# Altium integrated library Xilinx Spartan-II.IntLib: 120 symbols (part 12 of 14)
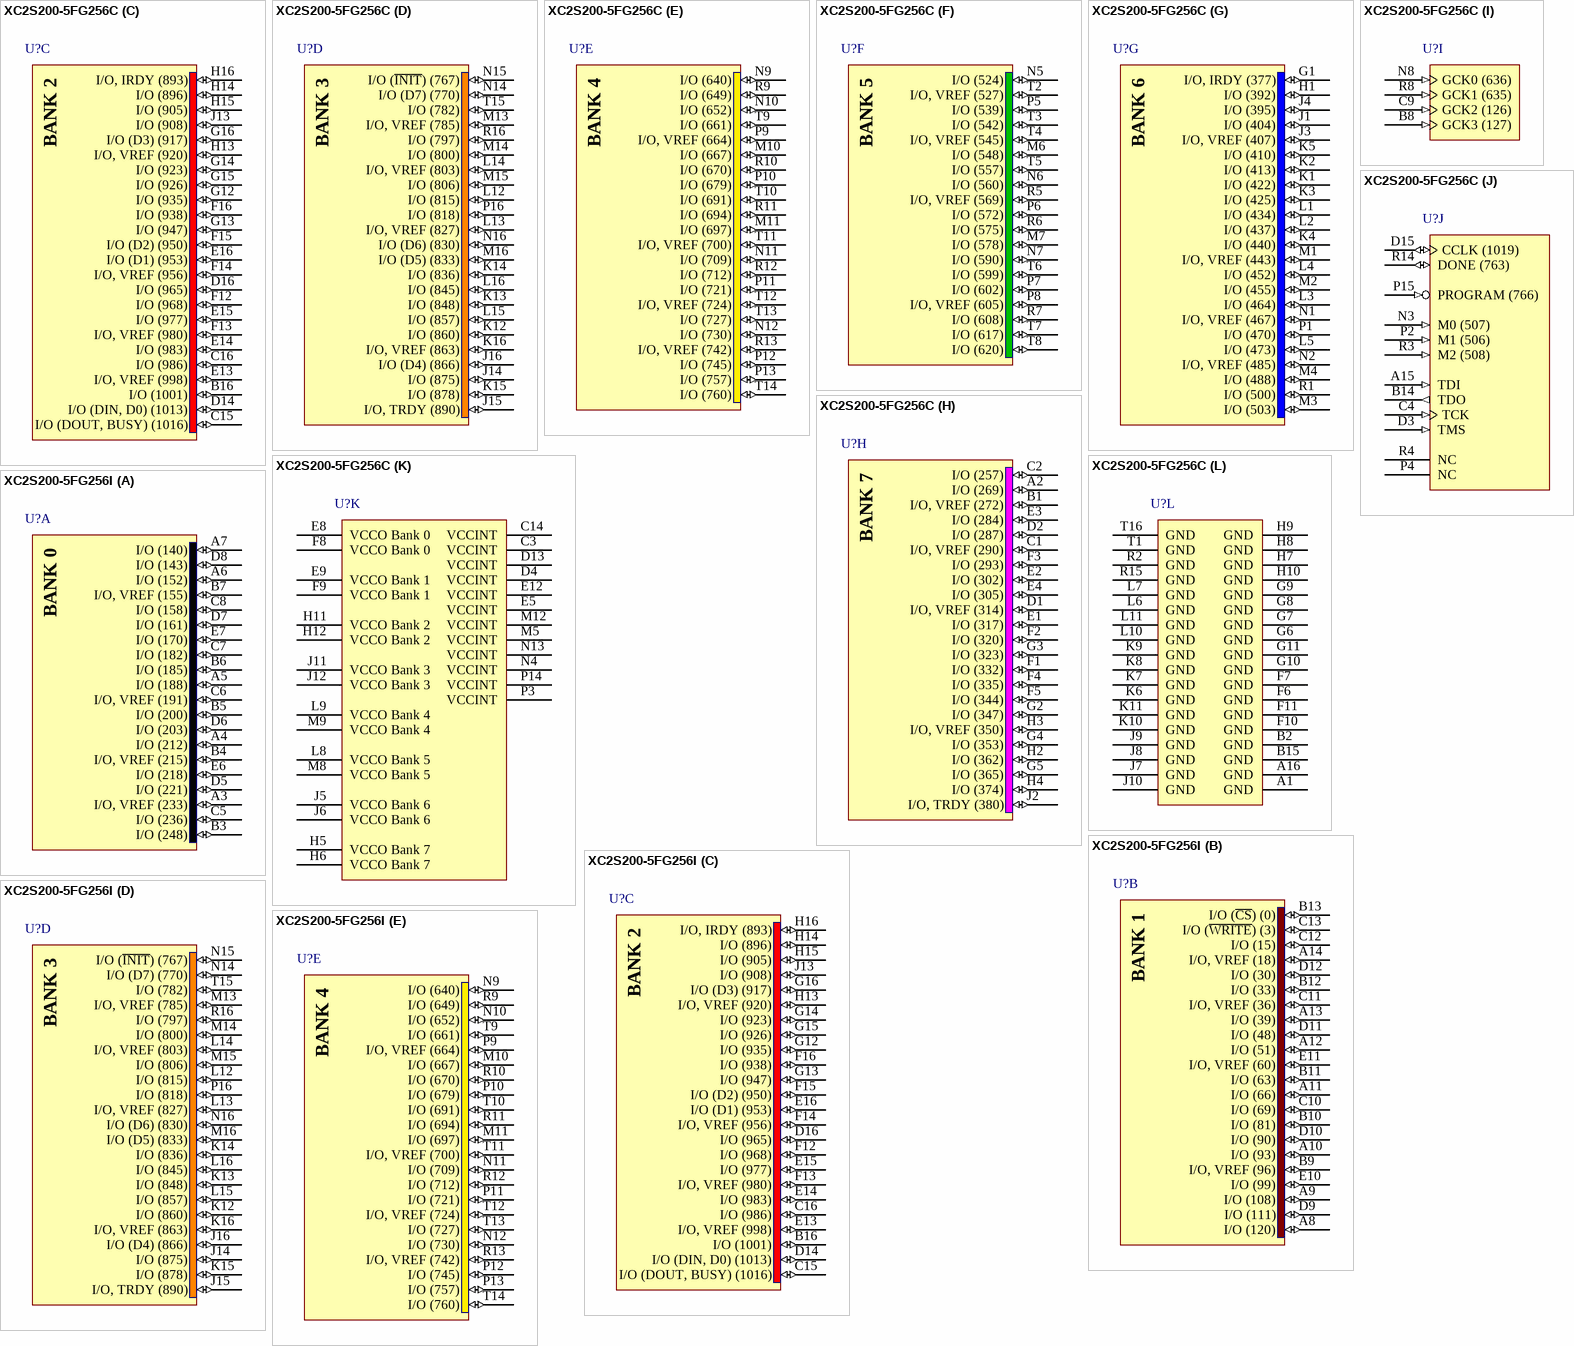
[diagram p81: symbols XC2S200-5FG256C to XC2S200-5FG256I]

## XC2S200-5FG256C
designator U?
Spartan-II 2.5V FPGA, 256-Ball FBGA, Standard Performance, Commercial Grade; Published: 13-Jul-2001; LatestRevisionDate: 13-Apr-2006; LatestRevisionNote: IPC-7351 Footprint Added.; DatasheetVersion: Aug-2004; PackageVersion: ver1.2.1, Apr-2005; PackageReference: FG256; Publisher: Altium Limited; PackageDescription: 256-Ball Fine Pitch Ball Grid Array (FG256); Code_JEDEC: MO-151-AAF-1; Code_IPC: BGA100P16X16-256; ComponentLink1Description: Manufacturer Link; ComponentLink1URL: http://www.xilinx.com/products/silicon_solutions/fpgas/spartan_series/spartan2_fpgas/index.htm; ComponentLink2Description: Datasheet; ComponentLink2URL: http://direct.xilinx.com/bvdocs/publications/ds001.pdf
footprint FG256 (BGA, 256-Leads, Body 17x17mm, Pitch 1mm)
3D model XC2S200-FG256 (256-Ball Fine Pitch Ball Grid Array (FG256))
signal-integrity model XC2S200_FG256 (Spartan-II)
part A pins: A3 I/O, VREF (233) (io), A4 I/O (212) (io), A5 I/O (188) (io), A6 I/O (152) (io), A7 I/O (140) (io), B3 I/O (248) (io), B4 I/O, VREF (215) (io), B5 I/O (200) (io), B6 I/O (185) (io), B7 I/O, VREF (155) (io), C5 I/O (236) (io), C6 I/O, VREF (191) (io), C7 I/O (182) (io), C8 I/O (158) (io), D5 I/O (221) (io), D6 I/O (203) (io), D7 I/O (161) (io), D8 I/O (143) (io), E6 I/O (218) (io), E7 I/O (170) (io)
part B pins: A8 I/O (120) (io), A9 I/O (108) (io), A10 I/O (93) (io), A11 I/O (66) (io), A12 I/O (51) (io), A13 I/O (39) (io), A14 I/O, VREF (18) (io), B9 I/O, VREF (96) (io), B10 I/O (81) (io), B11 I/O (63) (io), B12 I/O (33) (io), B13 I/O (~{CS}) (0) (io), C10 I/O (69) (io), C11 I/O, VREF (36) (io), C12 I/O (15) (io), C13 I/O (~{WRITE}) (3) (io), D9 I/O (111) (io), D10 I/O (90) (io), D11 I/O (48) (io), D12 I/O (30) (io), E10 I/O (99) (io), E11 I/O, VREF (60) (io)
part C pins: B16 I/O (1001) (io), C15 I/O (DOUT, BUSY) (1016) (io), C16 I/O (986) (io), D14 I/O (DIN, D0) (1013) (io), D16 I/O (965) (io), E13 I/O, VREF (998) (io), E14 I/O (983) (io), E15 I/O (977) (io), E16 I/O (D1) (953) (io), F12 I/O (968) (io), F13 I/O, VREF (980) (io), F14 I/O, VREF (956) (io), F15 I/O (D2) (950) (io), F16 I/O (938) (io), G12 I/O (935) (io), G13 I/O (947) (io), G14 I/O (923) (io), G15 I/O (926) (io), G16 I/O (D3) (917) (io), H13 I/O, VREF (920) (io), H14 I/O (896) (io), H15 I/O (905) (io), H16 I/O, IRDY (893) (io), J13 I/O (908) (io)
part D pins: J14 I/O (875) (io), J15 I/O, TRDY (890) (io), J16 I/O (D4) (866) (io), K12 I/O (860) (io), K13 I/O (848) (io), K14 I/O (836) (io), K15 I/O (878) (io), K16 I/O, VREF (863) (io), L12 I/O (815) (io), L13 I/O, VREF (827) (io), L14 I/O, VREF (803) (io), L15 I/O (857) (io), L16 I/O (845) (io), M13 I/O, VREF (785) (io), M14 I/O (800) (io), M15 I/O (806) (io), M16 I/O (D5) (833) (io), N14 I/O (D7) (770) (io), N15 I/O (~{INIT}) (767) (io), N16 I/O (D6) (830) (io), P16 I/O (818) (io), R16 I/O (797) (io), T15 I/O (782) (io)
part E pins: M10 I/O (667) (io), M11 I/O (697) (io), N9 I/O (640) (io), N10 I/O (652) (io), N11 I/O (709) (io), N12 I/O (730) (io), P9 I/O, VREF (664) (io), P10 I/O (679) (io), P11 I/O (721) (io), P12 I/O (745) (io), P13 I/O (757) (io), R9 I/O (649) (io), R10 I/O (670) (io), R11 I/O (694) (io), R12 I/O (712) (io), R13 I/O, VREF (742) (io), T9 I/O (661) (io), T10 I/O (691) (io), T11 I/O, VREF (700) (io), T12 I/O, VREF (724) (io), T13 I/O (727) (io), T14 I/O (760) (io)
part F pins: M6 I/O (548) (io), M7 I/O (578) (io), N5 I/O (524) (io), N6 I/O (560) (io), N7 I/O (590) (io), P5 I/O (539) (io), P6 I/O (572) (io), P7 I/O (602) (io), P8 I/O, VREF (605) (io), R5 I/O, VREF (569) (io), R6 I/O (575) (io), R7 I/O (608) (io), T2 I/O, VREF (527) (io), T3 I/O (542) (io), T4 I/O, VREF (545) (io), T5 I/O (557) (io), T6 I/O (599) (io), T7 I/O (617) (io), T8 I/O (620) (io)
part G pins: G1 I/O, IRDY (377) (io), H1 I/O (392) (io), J1 I/O (404) (io), J3 I/O, VREF (407) (io), J4 I/O (395) (io), K1 I/O (422) (io), K2 I/O (413) (io), K3 I/O (425) (io), K4 I/O (440) (io), K5 I/O (410) (io), L1 I/O (434) (io), L2 I/O (437) (io), L3 I/O (464) (io), L4 I/O (452) (io), L5 I/O (473) (io), M1 I/O, VREF (443) (io), M2 I/O (455) (io), M3 I/O (503) (io), M4 I/O (488) (io), N1 I/O, VREF (467) (io), N2 I/O, VREF (485) (io), P1 I/O (470) (io), R1 I/O (500) (io)
part H pins: A2 I/O (269) (io), B1 I/O, VREF (272) (io), C1 I/O, VREF (290) (io), C2 I/O (257) (io), D1 I/O, VREF (314) (io), D2 I/O (287) (io), E1 I/O (317) (io), E2 I/O (302) (io), E3 I/O (284) (io), E4 I/O (305) (io), F1 I/O (332) (io), F2 I/O (320) (io), F3 I/O (293) (io), F4 I/O (335) (io), F5 I/O (344) (io), G2 I/O (347) (io), G3 I/O (323) (io), G4 I/O (353) (io), G5 I/O (365) (io), H2 I/O (362) (io), H3 I/O, VREF (350) (io), H4 I/O (374) (io), J2 I/O, TRDY (380) (io)
part I pins: B8 GCK3 (127) (in), C9 GCK2 (126) (in), N8 GCK0 (636) (in), R8 GCK1 (635) (in)
part J pins: A15 TDI (in), B14 TDO (out), C4 TCK (in), D3 TMS (in), D15 CCLK (1019) (io), N3 M0 (507) (in), P2 M1 (506) (in), P4 NC, P15 PROGRAM (766) (in), R3 M2 (508) (in), R4 NC, R14 DONE (763) (io)
part K pins: C3 VCCINT (power), C14 VCCINT (power), D4 VCCINT (power), D13 VCCINT (power), E5 VCCINT (power), E8 VCCO Bank 0 (power), E9 VCCO Bank 1 (power), E12 VCCINT (power), F8 VCCO Bank 0 (power), F9 VCCO Bank 1 (power), H5 VCCO Bank 7 (power), H6 VCCO Bank 7 (power), H11 VCCO Bank 2 (power), H12 VCCO Bank 2 (power), J5 VCCO Bank 6 (power), J6 VCCO Bank 6 (power), J11 VCCO Bank 3 (power), J12 VCCO Bank 3 (power), L8 VCCO Bank 5 (power), L9 VCCO Bank 4 (power), M5 VCCINT (power), M8 VCCO Bank 5 (power), M9 VCCO Bank 4 (power), M12 VCCINT (power), N4 VCCINT (power), N13 VCCINT (power), P3 VCCINT (power), P14 VCCINT (power)
part L pins: A1 GND (power), A16 GND (power), B2 GND (power), B15 GND (power), F6 GND (power), F7 GND (power), F10 GND (power), F11 GND (power), G6 GND (power), G7 GND (power), G8 GND (power), G9 GND (power), G10 GND (power), G11 GND (power), H7 GND (power), H8 GND (power), H9 GND (power), H10 GND (power), J7 GND (power), J8 GND (power), J9 GND (power), J10 GND (power), K6 GND (power), K7 GND (power), K8 GND (power), K9 GND (power), K10 GND (power), K11 GND (power), L6 GND (power), L7 GND (power), L10 GND (power), L11 GND (power), R2 GND (power), R15 GND (power), T1 GND (power), T16 GND (power)
part A text: BANK 0
part B text: BANK 1
part C text: BANK 2
part D text: BANK 3
part E text: BANK 4
part F text: BANK 5
part G text: BANK 6
part H text: BANK 7

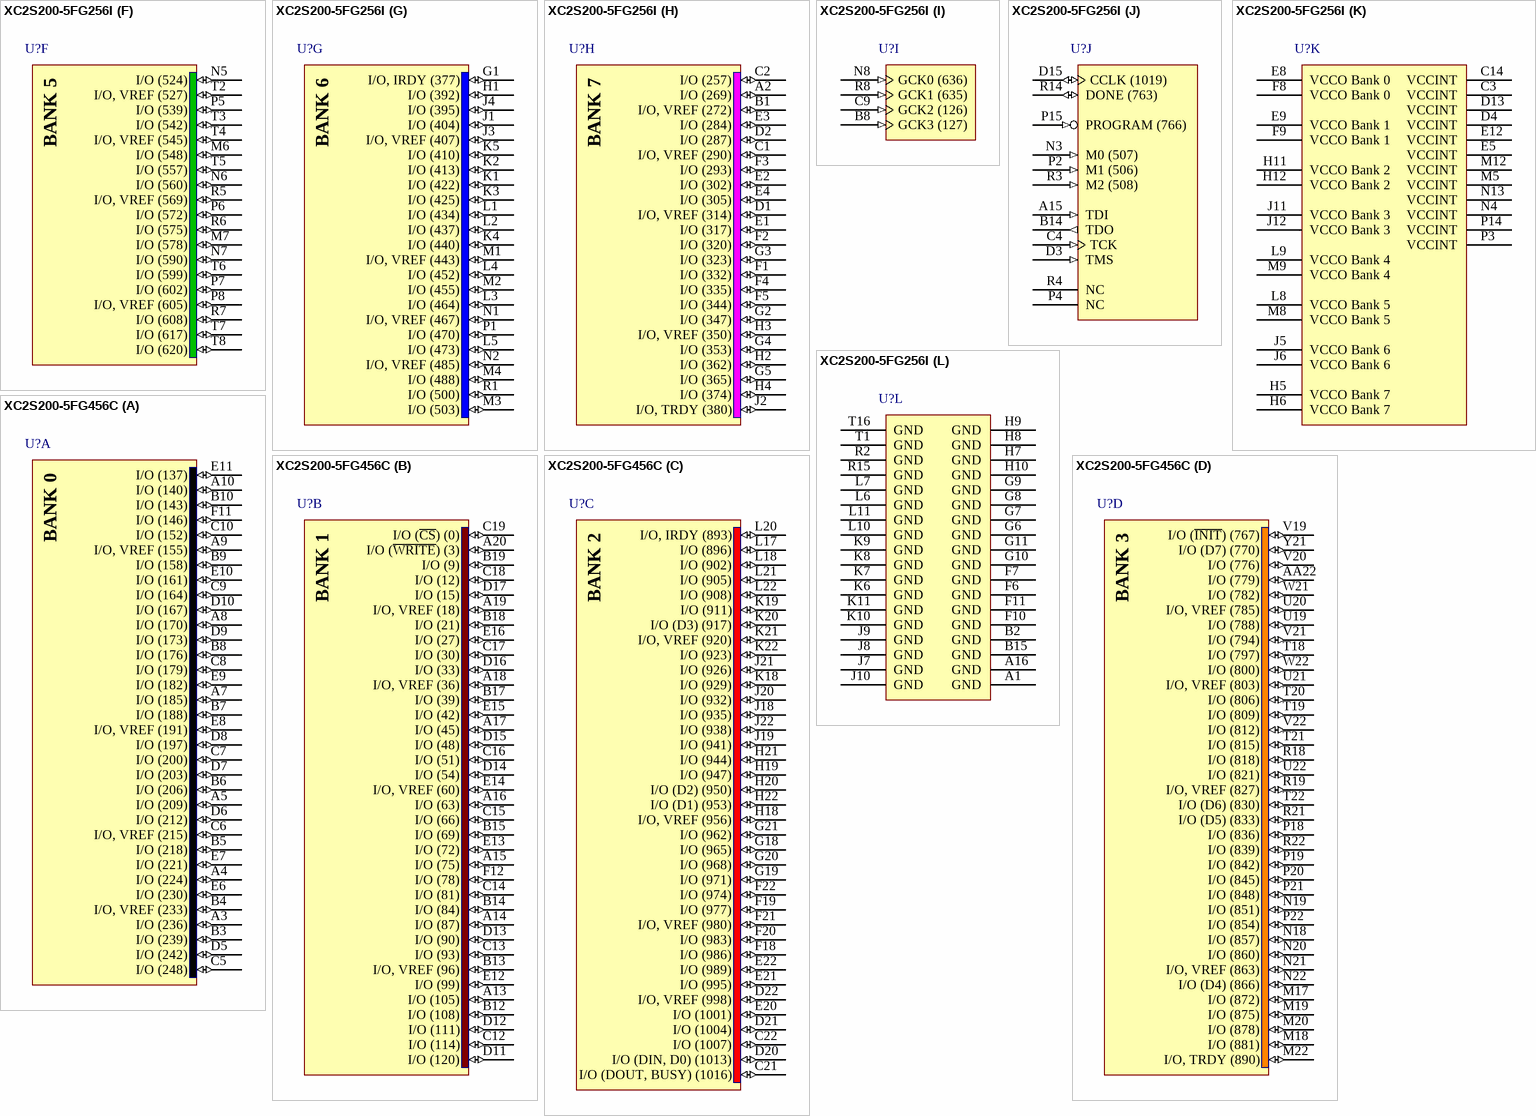
[diagram p58: symbols XC2S200-5FG256I to XC2S200-5FG456C]

## XC2S200-5FG256I
designator U?
Spartan-II 2.5V FPGA, 256-Ball FBGA, Standard Performance, Industrial Grade; Published: 13-Jul-2001; LatestRevisionDate: 13-Apr-2006; LatestRevisionNote: IPC-7351 Footprint Added.; DatasheetVersion: Aug-2004; PackageVersion: ver1.2.1, Apr-2005; PackageReference: FG256; Publisher: Altium Limited; PackageDescription: 256-Ball Fine Pitch Ball Grid Array (FG256); Code_JEDEC: MO-151-AAF-1; Code_IPC: BGA100P16X16-256; ComponentLink1Description: Manufacturer Link; ComponentLink1URL: http://www.xilinx.com/products/silicon_solutions/fpgas/spartan_series/spartan2_fpgas/index.htm; ComponentLink2Description: Datasheet; ComponentLink2URL: http://direct.xilinx.com/bvdocs/publications/ds001.pdf
footprint FG256 (BGA, 256-Leads, Body 17x17mm, Pitch 1mm)
3D model XC2S200-FG256 (256-Ball Fine Pitch Ball Grid Array (FG256))
signal-integrity model XC2S200_FG256 (Spartan-II)
part A pins: A3 I/O, VREF (233) (io), A4 I/O (212) (io), A5 I/O (188) (io), A6 I/O (152) (io), A7 I/O (140) (io), B3 I/O (248) (io), B4 I/O, VREF (215) (io), B5 I/O (200) (io), B6 I/O (185) (io), B7 I/O, VREF (155) (io), C5 I/O (236) (io), C6 I/O, VREF (191) (io), C7 I/O (182) (io), C8 I/O (158) (io), D5 I/O (221) (io), D6 I/O (203) (io), D7 I/O (161) (io), D8 I/O (143) (io), E6 I/O (218) (io), E7 I/O (170) (io)
part B pins: A8 I/O (120) (io), A9 I/O (108) (io), A10 I/O (93) (io), A11 I/O (66) (io), A12 I/O (51) (io), A13 I/O (39) (io), A14 I/O, VREF (18) (io), B9 I/O, VREF (96) (io), B10 I/O (81) (io), B11 I/O (63) (io), B12 I/O (33) (io), B13 I/O (~{CS}) (0) (io), C10 I/O (69) (io), C11 I/O, VREF (36) (io), C12 I/O (15) (io), C13 I/O (~{WRITE}) (3) (io), D9 I/O (111) (io), D10 I/O (90) (io), D11 I/O (48) (io), D12 I/O (30) (io), E10 I/O (99) (io), E11 I/O, VREF (60) (io)
part C pins: B16 I/O (1001) (io), C15 I/O (DOUT, BUSY) (1016) (io), C16 I/O (986) (io), D14 I/O (DIN, D0) (1013) (io), D16 I/O (965) (io), E13 I/O, VREF (998) (io), E14 I/O (983) (io), E15 I/O (977) (io), E16 I/O (D1) (953) (io), F12 I/O (968) (io), F13 I/O, VREF (980) (io), F14 I/O, VREF (956) (io), F15 I/O (D2) (950) (io), F16 I/O (938) (io), G12 I/O (935) (io), G13 I/O (947) (io), G14 I/O (923) (io), G15 I/O (926) (io), G16 I/O (D3) (917) (io), H13 I/O, VREF (920) (io), H14 I/O (896) (io), H15 I/O (905) (io), H16 I/O, IRDY (893) (io), J13 I/O (908) (io)
part D pins: J14 I/O (875) (io), J15 I/O, TRDY (890) (io), J16 I/O (D4) (866) (io), K12 I/O (860) (io), K13 I/O (848) (io), K14 I/O (836) (io), K15 I/O (878) (io), K16 I/O, VREF (863) (io), L12 I/O (815) (io), L13 I/O, VREF (827) (io), L14 I/O, VREF (803) (io), L15 I/O (857) (io), L16 I/O (845) (io), M13 I/O, VREF (785) (io), M14 I/O (800) (io), M15 I/O (806) (io), M16 I/O (D5) (833) (io), N14 I/O (D7) (770) (io), N15 I/O (~{INIT}) (767) (io), N16 I/O (D6) (830) (io), P16 I/O (818) (io), R16 I/O (797) (io), T15 I/O (782) (io)
part E pins: M10 I/O (667) (io), M11 I/O (697) (io), N9 I/O (640) (io), N10 I/O (652) (io), N11 I/O (709) (io), N12 I/O (730) (io), P9 I/O, VREF (664) (io), P10 I/O (679) (io), P11 I/O (721) (io), P12 I/O (745) (io), P13 I/O (757) (io), R9 I/O (649) (io), R10 I/O (670) (io), R11 I/O (694) (io), R12 I/O (712) (io), R13 I/O, VREF (742) (io), T9 I/O (661) (io), T10 I/O (691) (io), T11 I/O, VREF (700) (io), T12 I/O, VREF (724) (io), T13 I/O (727) (io), T14 I/O (760) (io)
part F pins: M6 I/O (548) (io), M7 I/O (578) (io), N5 I/O (524) (io), N6 I/O (560) (io), N7 I/O (590) (io), P5 I/O (539) (io), P6 I/O (572) (io), P7 I/O (602) (io), P8 I/O, VREF (605) (io), R5 I/O, VREF (569) (io), R6 I/O (575) (io), R7 I/O (608) (io), T2 I/O, VREF (527) (io), T3 I/O (542) (io), T4 I/O, VREF (545) (io), T5 I/O (557) (io), T6 I/O (599) (io), T7 I/O (617) (io), T8 I/O (620) (io)
part G pins: G1 I/O, IRDY (377) (io), H1 I/O (392) (io), J1 I/O (404) (io), J3 I/O, VREF (407) (io), J4 I/O (395) (io), K1 I/O (422) (io), K2 I/O (413) (io), K3 I/O (425) (io), K4 I/O (440) (io), K5 I/O (410) (io), L1 I/O (434) (io), L2 I/O (437) (io), L3 I/O (464) (io), L4 I/O (452) (io), L5 I/O (473) (io), M1 I/O, VREF (443) (io), M2 I/O (455) (io), M3 I/O (503) (io), M4 I/O (488) (io), N1 I/O, VREF (467) (io), N2 I/O, VREF (485) (io), P1 I/O (470) (io), R1 I/O (500) (io)
part H pins: A2 I/O (269) (io), B1 I/O, VREF (272) (io), C1 I/O, VREF (290) (io), C2 I/O (257) (io), D1 I/O, VREF (314) (io), D2 I/O (287) (io), E1 I/O (317) (io), E2 I/O (302) (io), E3 I/O (284) (io), E4 I/O (305) (io), F1 I/O (332) (io), F2 I/O (320) (io), F3 I/O (293) (io), F4 I/O (335) (io), F5 I/O (344) (io), G2 I/O (347) (io), G3 I/O (323) (io), G4 I/O (353) (io), G5 I/O (365) (io), H2 I/O (362) (io), H3 I/O, VREF (350) (io), H4 I/O (374) (io), J2 I/O, TRDY (380) (io)
part I pins: B8 GCK3 (127) (in), C9 GCK2 (126) (in), N8 GCK0 (636) (in), R8 GCK1 (635) (in)
part J pins: A15 TDI (in), B14 TDO (out), C4 TCK (in), D3 TMS (in), D15 CCLK (1019) (io), N3 M0 (507) (in), P2 M1 (506) (in), P4 NC, P15 PROGRAM (766) (in), R3 M2 (508) (in), R4 NC, R14 DONE (763) (io)
part K pins: C3 VCCINT (power), C14 VCCINT (power), D4 VCCINT (power), D13 VCCINT (power), E5 VCCINT (power), E8 VCCO Bank 0 (power), E9 VCCO Bank 1 (power), E12 VCCINT (power), F8 VCCO Bank 0 (power), F9 VCCO Bank 1 (power), H5 VCCO Bank 7 (power), H6 VCCO Bank 7 (power), H11 VCCO Bank 2 (power), H12 VCCO Bank 2 (power), J5 VCCO Bank 6 (power), J6 VCCO Bank 6 (power), J11 VCCO Bank 3 (power), J12 VCCO Bank 3 (power), L8 VCCO Bank 5 (power), L9 VCCO Bank 4 (power), M5 VCCINT (power), M8 VCCO Bank 5 (power), M9 VCCO Bank 4 (power), M12 VCCINT (power), N4 VCCINT (power), N13 VCCINT (power), P3 VCCINT (power), P14 VCCINT (power)
part L pins: A1 GND (power), A16 GND (power), B2 GND (power), B15 GND (power), F6 GND (power), F7 GND (power), F10 GND (power), F11 GND (power), G6 GND (power), G7 GND (power), G8 GND (power), G9 GND (power), G10 GND (power), G11 GND (power), H7 GND (power), H8 GND (power), H9 GND (power), H10 GND (power), J7 GND (power), J8 GND (power), J9 GND (power), J10 GND (power), K6 GND (power), K7 GND (power), K8 GND (power), K9 GND (power), K10 GND (power), K11 GND (power), L6 GND (power), L7 GND (power), L10 GND (power), L11 GND (power), R2 GND (power), R15 GND (power), T1 GND (power), T16 GND (power)
part A text: BANK 0
part B text: BANK 1
part C text: BANK 2
part D text: BANK 3
part E text: BANK 4
part F text: BANK 5
part G text: BANK 6
part H text: BANK 7

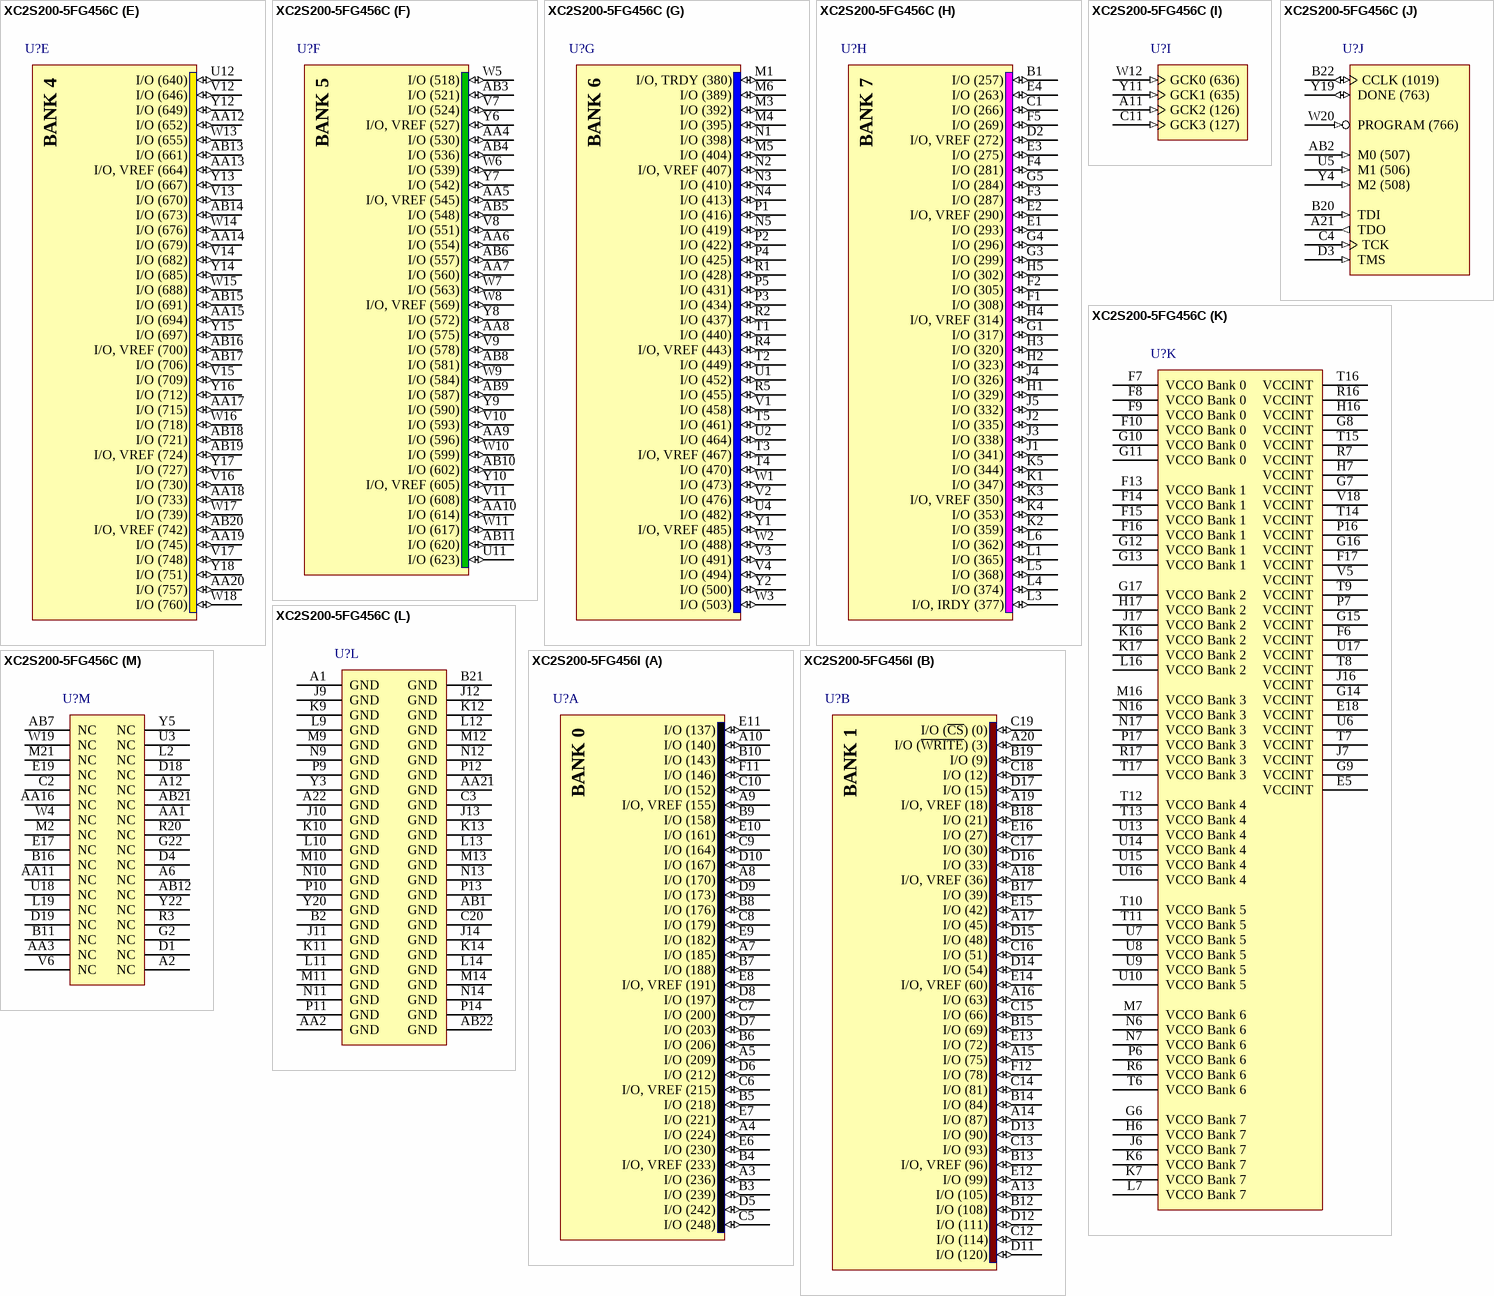
[diagram p59: symbols XC2S200-5FG456C to XC2S200-5FG456I]

## XC2S200-5FG456C
designator U?
Spartan-II 2.5V FPGA, 456-Ball FBGA, Standard Performance, Commercial Grade; Published: 13-Jul-2001; LatestRevisionDate: 13-Apr-2006; LatestRevisionNote: IPC-7351 Footprint Added.; DatasheetVersion: Aug-2004; PackageVersion: ver1.2.1, Mar-2005; PackageReference: FG456; Publisher: Altium Limited; PackageDescription: 456-Ball Fine Pitch Ball Grid Array (FG456); Code_JEDEC: MO-151-AAJ-1 (Depopulated); ComponentLink1Description: Manufacturer Link; ComponentLink1URL: http://www.xilinx.com/products/silicon_solutions/fpgas/spartan_series/spartan2_fpgas/index.htm; ComponentLink2Description: Datasheet; ComponentLink2URL: http://direct.xilinx.com/bvdocs/publications/ds001.pdf
footprint FG456 (BGA, 456-Leads, Body 23x23mm, Pitch 1mm)
3D model XC2S200-FG456 (456-Ball Fine Pitch Ball Grid Array (FG456))
signal-integrity model XC2S200_FG456 (Spartan-II)
part A pins: A3 I/O (236) (io), A4 I/O (224) (io), A5 I/O (209) (io), A7 I/O (185) (io), A8 I/O (170) (io), A9 I/O, VREF (155) (io), A10 I/O (140) (io), B3 I/O (239) (io), B4 I/O, VREF (233) (io), B5 I/O (218) (io), B6 I/O (206) (io), B7 I/O (188) (io), B8 I/O (176) (io), B9 I/O (158) (io), B10 I/O (143) (io), C5 I/O (248) (io), C6 I/O, VREF (215) (io), C7 I/O (200) (io), C8 I/O (179) (io), C9 I/O (164) (io), C10 I/O (152) (io), D5 I/O (242) (io), D6 I/O (212) (io), D7 I/O (203) (io), D8 I/O (197) (io), D9 I/O (173) (io), D10 I/O (167) (io), E6 I/O (230) (io), E7 I/O (221) (io), E8 I/O, VREF (191) (io), E9 I/O (182) (io), E10 I/O (161) (io), E11 I/O (137) (io), F11 I/O (146) (io)
part B pins: A13 I/O (105) (io), A14 I/O (87) (io), A15 I/O (75) (io), A16 I/O (63) (io), A17 I/O (45) (io), A18 I/O, VREF (36) (io), A19 I/O, VREF (18) (io), A20 I/O (~{WRITE}) (3) (io), B12 I/O (108) (io), B13 I/O, VREF (96) (io), B14 I/O (84) (io), B15 I/O (69) (io), B17 I/O (39) (io), B18 I/O (21) (io), B19 I/O (9) (io), C12 I/O (114) (io), C13 I/O (93) (io), C14 I/O (81) (io), C15 I/O (66) (io), C16 I/O (51) (io), C17 I/O (30) (io), C18 I/O (12) (io), C19 I/O (~{CS}) (0) (io), D11 I/O (120) (io), D12 I/O (111) (io), D13 I/O (90) (io), D14 I/O (54) (io), D15 I/O (48) (io), D16 I/O (33) (io), D17 I/O (15) (io), E12 I/O (99) (io), E13 I/O (72) (io), E14 I/O, VREF (60) (io), E15 I/O (42) (io), E16 I/O (27) (io), F12 I/O (78) (io)
part C pins: C21 I/O (DOUT, BUSY) (1016) (io), C22 I/O (1007) (io), D20 I/O (DIN, D0) (1013) (io), D21 I/O (1004) (io), D22 I/O, VREF (998) (io), E20 I/O (1001) (io), E21 I/O (995) (io), E22 I/O (989) (io), F18 I/O (986) (io), F19 I/O (977) (io), F20 I/O (983) (io), F21 I/O, VREF (980) (io), F22 I/O (974) (io), G18 I/O (965) (io), G19 I/O (971) (io), G20 I/O (968) (io), G21 I/O (962) (io), H18 I/O, VREF (956) (io), H19 I/O (947) (io), H20 I/O (D2) (950) (io), H21 I/O (944) (io), H22 I/O (D1) (953) (io), J18 I/O (935) (io), J19 I/O (941) (io), J20 I/O (932) (io), J21 I/O (926) (io), J22 I/O (938) (io), K18 I/O (929) (io), K19 I/O (911) (io), K20 I/O (D3) (917) (io), K21 I/O, VREF (920) (io), K22 I/O (923) (io), L17 I/O (896) (io), L18 I/O (902) (io), L20 I/O, IRDY (893) (io), L21 I/O (905) (io), L22 I/O (908) (io)
part D pins: AA22 I/O (779) (io), M17 I/O (872) (io), M18 I/O (881) (io), M19 I/O (875) (io), M20 I/O (878) (io), M22 I/O, TRDY (890) (io), N18 I/O (857) (io), N19 I/O (851) (io), N20 I/O (860) (io), N21 I/O, VREF (863) (io), N22 I/O (D4) (866) (io), P18 I/O (836) (io), P19 I/O (842) (io), P20 I/O (845) (io), P21 I/O (848) (io), P22 I/O (854) (io), R18 I/O (818) (io), R19 I/O, VREF (827) (io), R21 I/O (D5) (833) (io), R22 I/O (839) (io), T18 I/O (797) (io), T19 I/O (809) (io), T20 I/O (806) (io), T21 I/O (815) (io), T22 I/O (D6) (830) (io), U19 I/O (788) (io), U20 I/O, VREF (785) (io), U21 I/O, VREF (803) (io), U22 I/O (821) (io), V19 I/O (~{INIT}) (767) (io), V20 I/O (776) (io), V21 I/O (794) (io), V22 I/O (812) (io), W21 I/O (782) (io), W22 I/O (800) (io), Y21 I/O (D7) (770) (io)
part E pins: AA12 I/O (652) (io), AA13 I/O, VREF (664) (io), AA14 I/O (679) (io), AA15 I/O (694) (io), AA17 I/O (715) (io), AA18 I/O (733) (io), AA19 I/O (745) (io), AA20 I/O (757) (io), AB13 I/O (661) (io), AB14 I/O (673) (io), AB15 I/O (691) (io), AB16 I/O, VREF (700) (io), AB17 I/O (706) (io), AB18 I/O (721) (io), AB19 I/O, VREF (724) (io), AB20 I/O, VREF (742) (io), U12 I/O (640) (io), V12 I/O (646) (io), V13 I/O (670) (io), V14 I/O (682) (io), V15 I/O (709) (io), V16 I/O (730) (io), V17 I/O (748) (io), W13 I/O (655) (io), W14 I/O (676) (io), W15 I/O (688) (io), W16 I/O (718) (io), W17 I/O (739) (io), W18 I/O (760) (io), Y12 I/O (649) (io), Y13 I/O (667) (io), Y14 I/O (685) (io), Y15 I/O (697) (io), Y16 I/O (712) (io), Y17 I/O (727) (io), Y18 I/O (751) (io)
part F pins: AA4 I/O (530) (io), AA5 I/O, VREF (545) (io), AA6 I/O (554) (io), AA7 I/O (560) (io), AA8 I/O (575) (io), AA9 I/O (596) (io), AA10 I/O (614) (io), AB3 I/O (521) (io), AB4 I/O (536) (io), AB5 I/O (548) (io), AB6 I/O (557) (io), AB8 I/O (581) (io), AB9 I/O (587) (io), AB10 I/O (602) (io), AB11 I/O (620) (io), U11 I/O (623) (io), V7 I/O (524) (io), V8 I/O (551) (io), V9 I/O (578) (io), V10 I/O (593) (io), V11 I/O (608) (io), W5 I/O (518) (io), W6 I/O (539) (io), W7 I/O (563) (io), W8 I/O, VREF (569) (io), W9 I/O (584) (io), W10 I/O (599) (io), W11 I/O (617) (io), Y6 I/O, VREF (527) (io), Y7 I/O (542) (io), Y8 I/O (572) (io), Y9 I/O (590) (io), Y10 I/O, VREF (605) (io)
part G pins: M1 I/O, TRDY (380) (io), M3 I/O (392) (io), M4 I/O (395) (io), M5 I/O (404) (io), M6 I/O (389) (io), N1 I/O (398) (io), N2 I/O, VREF (407) (io), N3 I/O (410) (io), N4 I/O (413) (io), N5 I/O (419) (io), P1 I/O (416) (io), P2 I/O (422) (io), P3 I/O (434) (io), P4 I/O (425) (io), P5 I/O (431) (io), R1 I/O (428) (io), R2 I/O (437) (io), R4 I/O, VREF (443) (io), R5 I/O (455) (io), T1 I/O (440) (io), T2 I/O (449) (io), T3 I/O, VREF (467) (io), T4 I/O (470) (io), T5 I/O (461) (io), U1 I/O (452) (io), U2 I/O (464) (io), U4 I/O (482) (io), V1 I/O (458) (io), V2 I/O (476) (io), V3 I/O (491) (io), V4 I/O (494) (io), W1 I/O (473) (io), W2 I/O (488) (io), W3 I/O (503) (io), Y1 I/O, VREF (485) (io), Y2 I/O (500) (io)
part H pins: B1 I/O (257) (io), C1 I/O (266) (io), D2 I/O, VREF (272) (io), E1 I/O (293) (io), E2 I/O, VREF (290) (io), E3 I/O (275) (io), E4 I/O (263) (io), F1 I/O (308) (io), F2 I/O (305) (io), F3 I/O (287) (io), F4 I/O (281) (io), F5 I/O (269) (io), G1 I/O (317) (io), G3 I/O (299) (io), G4 I/O (296) (io), G5 I/O (284) (io), H1 I/O (329) (io), H2 I/O (323) (io), H3 I/O (320) (io), H4 I/O, VREF (314) (io), H5 I/O (302) (io), J1 I/O (341) (io), J2 I/O (335) (io), J3 I/O (338) (io), J4 I/O (326) (io), J5 I/O (332) (io), K1 I/O (347) (io), K2 I/O (359) (io), K3 I/O, VREF (350) (io), K4 I/O (353) (io), K5 I/O (344) (io), L1 I/O (365) (io), L3 I/O, IRDY (377) (io), L4 I/O (374) (io), L5 I/O (368) (io), L6 I/O (362) (io)
part I pins: A11 GCK2 (126) (in), C11 GCK3 (127) (in), W12 GCK0 (636) (in), Y11 GCK1 (635) (in)
part J pins: A21 TDO (out), AB2 M0 (507) (in), B20 TDI (in), B22 CCLK (1019) (io), C4 TCK (in), D3 TMS (in), U5 M1 (506) (in), W20 PROGRAM (766) (in), Y4 M2 (508) (in), Y19 DONE (763) (io)
part K pins: E5 VCCINT (power), E18 VCCINT (power), F6 VCCINT (power), F7 VCCO Bank 0 (power), F8 VCCO Bank 0 (power), F9 VCCO Bank 0 (power), F10 VCCO Bank 0 (power), F13 VCCO Bank 1 (power), F14 VCCO Bank 1 (power), F15 VCCO Bank 1 (power), F16 VCCO Bank 1 (power), F17 VCCINT (power), G6 VCCO Bank 7 (power), G7 VCCINT (power), G8 VCCINT (power), G9 VCCINT (power), G10 VCCO Bank 0 (power), G11 VCCO Bank 0 (power), G12 VCCO Bank 1 (power), G13 VCCO Bank 1 (power), G14 VCCINT (power), G15 VCCINT (power), G16 VCCINT (power), G17 VCCO Bank 2 (power), H6 VCCO Bank 7 (power), H7 VCCINT (power), H16 VCCINT (power), H17 VCCO Bank 2 (power), J6 VCCO Bank 7 (power), J7 VCCINT (power), J16 VCCINT (power), J17 VCCO Bank 2 (power), K6 VCCO Bank 7 (power), K7 VCCO Bank 7 (power), K16 VCCO Bank 2 (power), K17 VCCO Bank 2 (power), L7 VCCO Bank 7 (power), L16 VCCO Bank 2 (power), M7 VCCO Bank 6 (power), M16 VCCO Bank 3 (power), N6 VCCO Bank 6 (power), N7 VCCO Bank 6 (power), N16 VCCO Bank 3 (power), N17 VCCO Bank 3 (power), P6 VCCO Bank 6 (power), P7 VCCINT (power), P16 VCCINT (power), P17 VCCO Bank 3 (power), R6 VCCO Bank 6 (power), R7 VCCINT (power), R16 VCCINT (power), R17 VCCO Bank 3 (power), T6 VCCO Bank 6 (power), T7 VCCINT (power), T8 VCCINT (power), T9 VCCINT (power), T10 VCCO Bank 5 (power), T11 VCCO Bank 5 (power), T12 VCCO Bank 4 (power), T13 VCCO Bank 4 (power), T14 VCCINT (power), T15 VCCINT (power), T16 VCCINT (power), T17 VCCO Bank 3 (power), U6 VCCINT (power), U7 VCCO Bank 5 (power), U8 VCCO Bank 5 (power), U9 VCCO Bank 5 (power), U10 VCCO Bank 5 (power), U13 VCCO Bank 4 (power), U14 VCCO Bank 4 (power), U15 VCCO Bank 4 (power), U16 VCCO Bank 4 (power), U17 VCCINT (power), V5 VCCINT (power), V18 VCCINT (power)
part L pins: A1 GND (power), A22 GND (power), AA2 GND (power), AA21 GND (power), AB1 GND (power), AB22 GND (power), B2 GND (power), B21 GND (power), C3 GND (power), C20 GND (power), J9 GND (power), J10 GND (power), J11 GND (power), J12 GND (power), J13 GND (power), J14 GND (power), K9 GND (power), K10 GND (power), K11 GND (power), K12 GND (power), K13 GND (power), K14 GND (power), L9 GND (power), L10 GND (power), L11 GND (power), L12 GND (power), L13 GND (power), L14 GND (power), M9 GND (power), M10 GND (power), M11 GND (power), M12 GND (power), M13 GND (power), M14 GND (power), N9 GND (power), N10 GND (power), N11 GND (power), N12 GND (power), N13 GND (power), N14 GND (power), P9 GND (power), P10 GND (power), P11 GND (power), P12 GND (power), P13 GND (power), P14 GND (power), Y3 GND (power), Y20 GND (power)
part M pins: A2 NC, A6 NC, A12 NC, AA1 NC, AA3 NC, AA11 NC, AA16 NC, AB7 NC, AB12 NC, AB21 NC, B11 NC, B16 NC, C2 NC, D1 NC, D4 NC, D18 NC, D19 NC, E17 NC, E19 NC, G2 NC, G22 NC, L2 NC, L19 NC, M2 NC, M21 NC, R3 NC, R20 NC, U3 NC, U18 NC, V6 NC, W4 NC, W19 NC, Y5 NC, Y22 NC
part A text: BANK 0
part B text: BANK 1
part C text: BANK 2
part D text: BANK 3
part E text: BANK 4
part F text: BANK 5
part G text: BANK 6
part H text: BANK 7

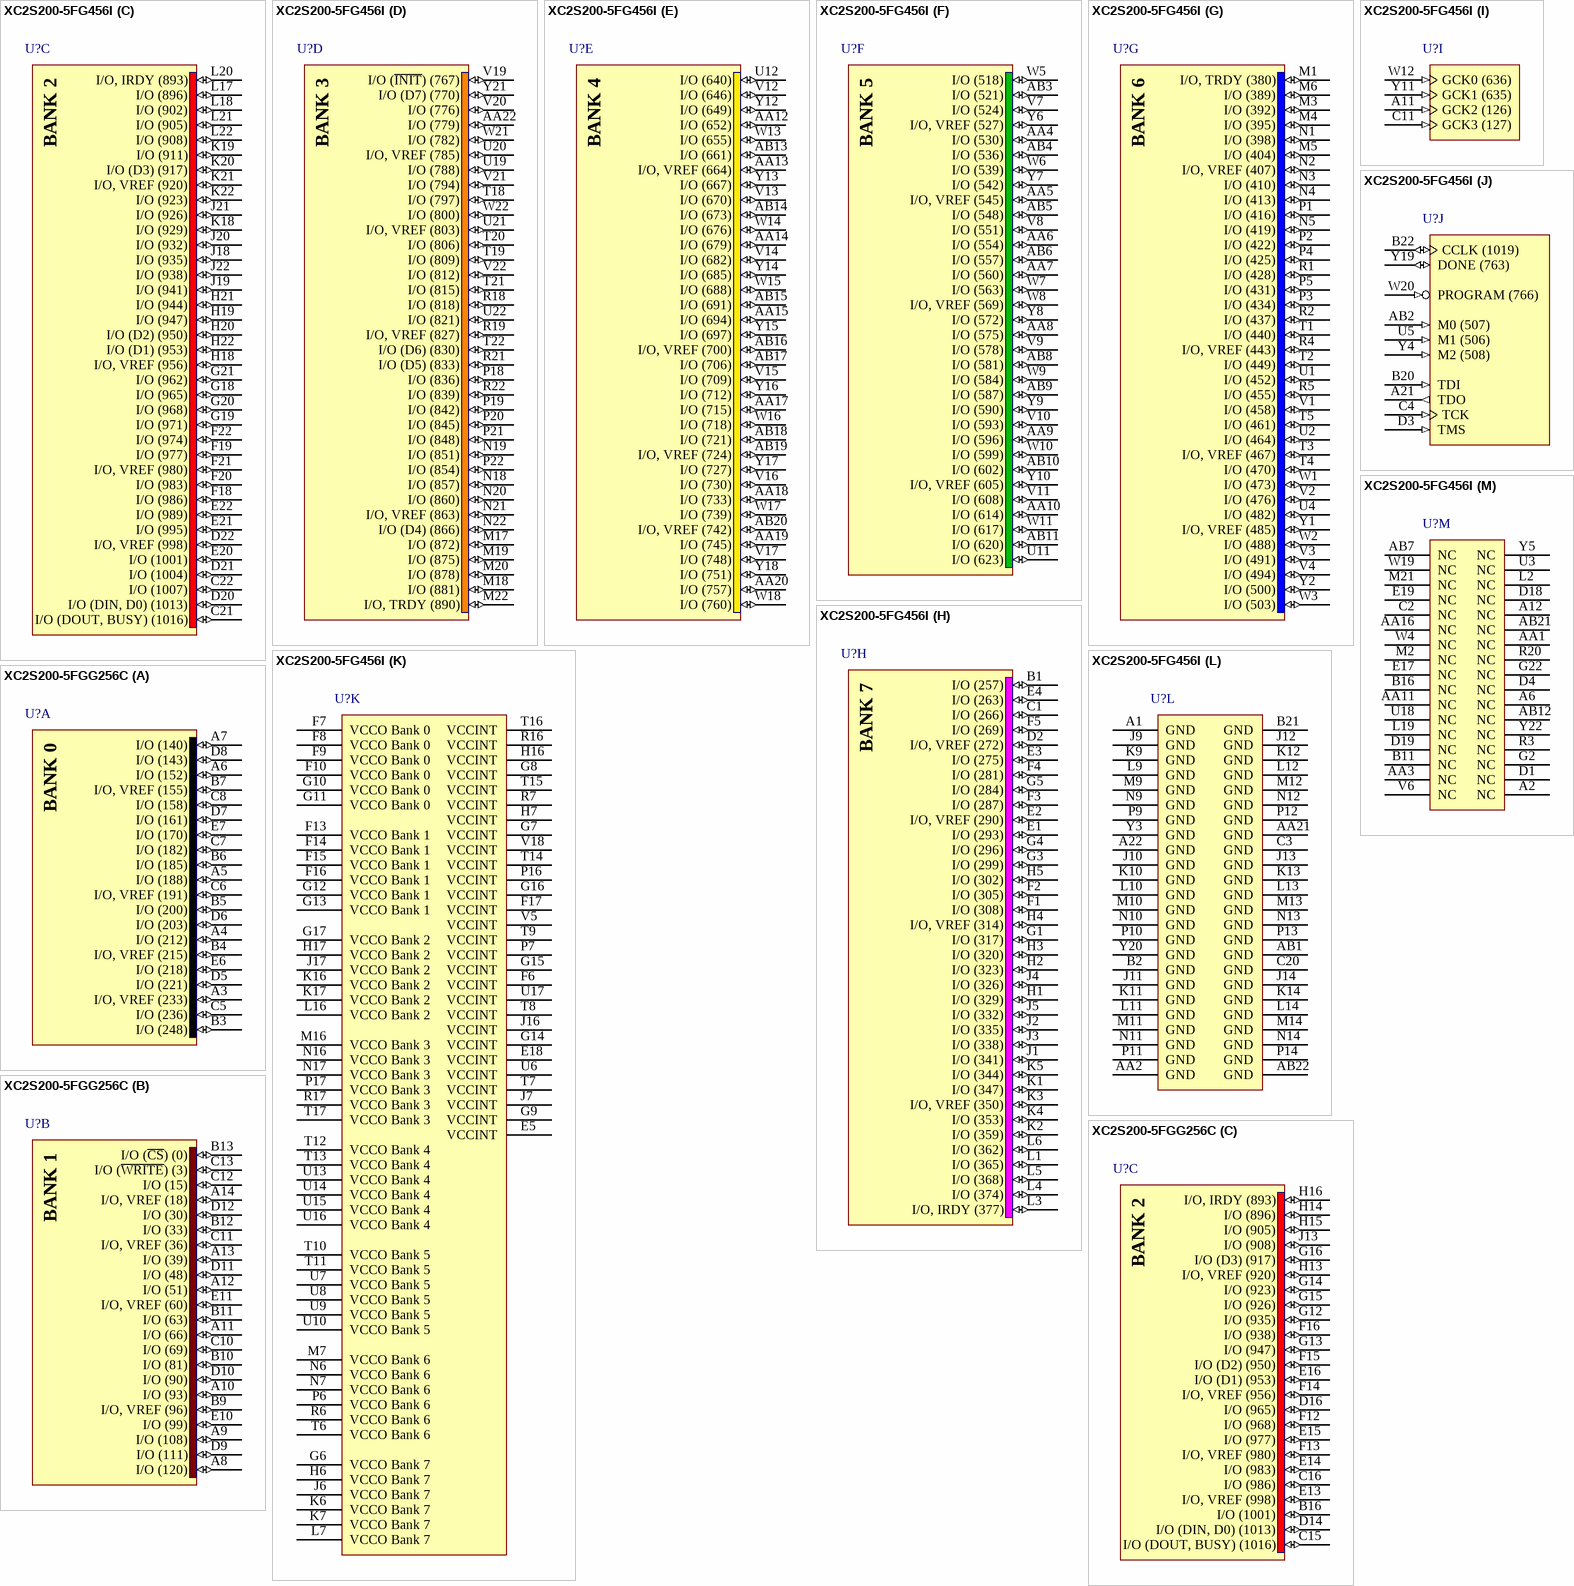
[diagram p60: symbols XC2S200-5FG456I to XC2S200-5FGG256C]

## XC2S200-5FG456I
designator U?
Spartan-II 2.5V FPGA, 456-Ball FBGA, Standard Performance, Industrial Grade; Published: 13-Jul-2001; LatestRevisionDate: 13-Apr-2006; LatestRevisionNote: IPC-7351 Footprint Added.; DatasheetVersion: Aug-2004; PackageVersion: ver1.2.1, Mar-2005; PackageReference: FG456; Publisher: Altium Limited; PackageDescription: 456-Ball Fine Pitch Ball Grid Array (FG456); Code_JEDEC: MO-151-AAJ-1 (Depopulated); ComponentLink1Description: Manufacturer Link; ComponentLink1URL: http://www.xilinx.com/products/silicon_solutions/fpgas/spartan_series/spartan2_fpgas/index.htm; ComponentLink2Description: Datasheet; ComponentLink2URL: http://direct.xilinx.com/bvdocs/publications/ds001.pdf
footprint FG456 (BGA, 456-Leads, Body 23x23mm, Pitch 1mm)
3D model XC2S200-FG456 (456-Ball Fine Pitch Ball Grid Array (FG456))
signal-integrity model XC2S200_FG456 (Spartan-II)
part A pins: A3 I/O (236) (io), A4 I/O (224) (io), A5 I/O (209) (io), A7 I/O (185) (io), A8 I/O (170) (io), A9 I/O, VREF (155) (io), A10 I/O (140) (io), B3 I/O (239) (io), B4 I/O, VREF (233) (io), B5 I/O (218) (io), B6 I/O (206) (io), B7 I/O (188) (io), B8 I/O (176) (io), B9 I/O (158) (io), B10 I/O (143) (io), C5 I/O (248) (io), C6 I/O, VREF (215) (io), C7 I/O (200) (io), C8 I/O (179) (io), C9 I/O (164) (io), C10 I/O (152) (io), D5 I/O (242) (io), D6 I/O (212) (io), D7 I/O (203) (io), D8 I/O (197) (io), D9 I/O (173) (io), D10 I/O (167) (io), E6 I/O (230) (io), E7 I/O (221) (io), E8 I/O, VREF (191) (io), E9 I/O (182) (io), E10 I/O (161) (io), E11 I/O (137) (io), F11 I/O (146) (io)
part B pins: A13 I/O (105) (io), A14 I/O (87) (io), A15 I/O (75) (io), A16 I/O (63) (io), A17 I/O (45) (io), A18 I/O, VREF (36) (io), A19 I/O, VREF (18) (io), A20 I/O (~{WRITE}) (3) (io), B12 I/O (108) (io), B13 I/O, VREF (96) (io), B14 I/O (84) (io), B15 I/O (69) (io), B17 I/O (39) (io), B18 I/O (21) (io), B19 I/O (9) (io), C12 I/O (114) (io), C13 I/O (93) (io), C14 I/O (81) (io), C15 I/O (66) (io), C16 I/O (51) (io), C17 I/O (30) (io), C18 I/O (12) (io), C19 I/O (~{CS}) (0) (io), D11 I/O (120) (io), D12 I/O (111) (io), D13 I/O (90) (io), D14 I/O (54) (io), D15 I/O (48) (io), D16 I/O (33) (io), D17 I/O (15) (io), E12 I/O (99) (io), E13 I/O (72) (io), E14 I/O, VREF (60) (io), E15 I/O (42) (io), E16 I/O (27) (io), F12 I/O (78) (io)
part C pins: C21 I/O (DOUT, BUSY) (1016) (io), C22 I/O (1007) (io), D20 I/O (DIN, D0) (1013) (io), D21 I/O (1004) (io), D22 I/O, VREF (998) (io), E20 I/O (1001) (io), E21 I/O (995) (io), E22 I/O (989) (io), F18 I/O (986) (io), F19 I/O (977) (io), F20 I/O (983) (io), F21 I/O, VREF (980) (io), F22 I/O (974) (io), G18 I/O (965) (io), G19 I/O (971) (io), G20 I/O (968) (io), G21 I/O (962) (io), H18 I/O, VREF (956) (io), H19 I/O (947) (io), H20 I/O (D2) (950) (io), H21 I/O (944) (io), H22 I/O (D1) (953) (io), J18 I/O (935) (io), J19 I/O (941) (io), J20 I/O (932) (io), J21 I/O (926) (io), J22 I/O (938) (io), K18 I/O (929) (io), K19 I/O (911) (io), K20 I/O (D3) (917) (io), K21 I/O, VREF (920) (io), K22 I/O (923) (io), L17 I/O (896) (io), L18 I/O (902) (io), L20 I/O, IRDY (893) (io), L21 I/O (905) (io), L22 I/O (908) (io)
part D pins: AA22 I/O (779) (io), M17 I/O (872) (io), M18 I/O (881) (io), M19 I/O (875) (io), M20 I/O (878) (io), M22 I/O, TRDY (890) (io), N18 I/O (857) (io), N19 I/O (851) (io), N20 I/O (860) (io), N21 I/O, VREF (863) (io), N22 I/O (D4) (866) (io), P18 I/O (836) (io), P19 I/O (842) (io), P20 I/O (845) (io), P21 I/O (848) (io), P22 I/O (854) (io), R18 I/O (818) (io), R19 I/O, VREF (827) (io), R21 I/O (D5) (833) (io), R22 I/O (839) (io), T18 I/O (797) (io), T19 I/O (809) (io), T20 I/O (806) (io), T21 I/O (815) (io), T22 I/O (D6) (830) (io), U19 I/O (788) (io), U20 I/O, VREF (785) (io), U21 I/O, VREF (803) (io), U22 I/O (821) (io), V19 I/O (~{INIT}) (767) (io), V20 I/O (776) (io), V21 I/O (794) (io), V22 I/O (812) (io), W21 I/O (782) (io), W22 I/O (800) (io), Y21 I/O (D7) (770) (io)
part E pins: AA12 I/O (652) (io), AA13 I/O, VREF (664) (io), AA14 I/O (679) (io), AA15 I/O (694) (io), AA17 I/O (715) (io), AA18 I/O (733) (io), AA19 I/O (745) (io), AA20 I/O (757) (io), AB13 I/O (661) (io), AB14 I/O (673) (io), AB15 I/O (691) (io), AB16 I/O, VREF (700) (io), AB17 I/O (706) (io), AB18 I/O (721) (io), AB19 I/O, VREF (724) (io), AB20 I/O, VREF (742) (io), U12 I/O (640) (io), V12 I/O (646) (io), V13 I/O (670) (io), V14 I/O (682) (io), V15 I/O (709) (io), V16 I/O (730) (io), V17 I/O (748) (io), W13 I/O (655) (io), W14 I/O (676) (io), W15 I/O (688) (io), W16 I/O (718) (io), W17 I/O (739) (io), W18 I/O (760) (io), Y12 I/O (649) (io), Y13 I/O (667) (io), Y14 I/O (685) (io), Y15 I/O (697) (io), Y16 I/O (712) (io), Y17 I/O (727) (io), Y18 I/O (751) (io)
part F pins: AA4 I/O (530) (io), AA5 I/O, VREF (545) (io), AA6 I/O (554) (io), AA7 I/O (560) (io), AA8 I/O (575) (io), AA9 I/O (596) (io), AA10 I/O (614) (io), AB3 I/O (521) (io), AB4 I/O (536) (io), AB5 I/O (548) (io), AB6 I/O (557) (io), AB8 I/O (581) (io), AB9 I/O (587) (io), AB10 I/O (602) (io), AB11 I/O (620) (io), U11 I/O (623) (io), V7 I/O (524) (io), V8 I/O (551) (io), V9 I/O (578) (io), V10 I/O (593) (io), V11 I/O (608) (io), W5 I/O (518) (io), W6 I/O (539) (io), W7 I/O (563) (io), W8 I/O, VREF (569) (io), W9 I/O (584) (io), W10 I/O (599) (io), W11 I/O (617) (io), Y6 I/O, VREF (527) (io), Y7 I/O (542) (io), Y8 I/O (572) (io), Y9 I/O (590) (io), Y10 I/O, VREF (605) (io)
part G pins: M1 I/O, TRDY (380) (io), M3 I/O (392) (io), M4 I/O (395) (io), M5 I/O (404) (io), M6 I/O (389) (io), N1 I/O (398) (io), N2 I/O, VREF (407) (io), N3 I/O (410) (io), N4 I/O (413) (io), N5 I/O (419) (io), P1 I/O (416) (io), P2 I/O (422) (io), P3 I/O (434) (io), P4 I/O (425) (io), P5 I/O (431) (io), R1 I/O (428) (io), R2 I/O (437) (io), R4 I/O, VREF (443) (io), R5 I/O (455) (io), T1 I/O (440) (io), T2 I/O (449) (io), T3 I/O, VREF (467) (io), T4 I/O (470) (io), T5 I/O (461) (io), U1 I/O (452) (io), U2 I/O (464) (io), U4 I/O (482) (io), V1 I/O (458) (io), V2 I/O (476) (io), V3 I/O (491) (io), V4 I/O (494) (io), W1 I/O (473) (io), W2 I/O (488) (io), W3 I/O (503) (io), Y1 I/O, VREF (485) (io), Y2 I/O (500) (io)
part H pins: B1 I/O (257) (io), C1 I/O (266) (io), D2 I/O, VREF (272) (io), E1 I/O (293) (io), E2 I/O, VREF (290) (io), E3 I/O (275) (io), E4 I/O (263) (io), F1 I/O (308) (io), F2 I/O (305) (io), F3 I/O (287) (io), F4 I/O (281) (io), F5 I/O (269) (io), G1 I/O (317) (io), G3 I/O (299) (io), G4 I/O (296) (io), G5 I/O (284) (io), H1 I/O (329) (io), H2 I/O (323) (io), H3 I/O (320) (io), H4 I/O, VREF (314) (io), H5 I/O (302) (io), J1 I/O (341) (io), J2 I/O (335) (io), J3 I/O (338) (io), J4 I/O (326) (io), J5 I/O (332) (io), K1 I/O (347) (io), K2 I/O (359) (io), K3 I/O, VREF (350) (io), K4 I/O (353) (io), K5 I/O (344) (io), L1 I/O (365) (io), L3 I/O, IRDY (377) (io), L4 I/O (374) (io), L5 I/O (368) (io), L6 I/O (362) (io)
part I pins: A11 GCK2 (126) (in), C11 GCK3 (127) (in), W12 GCK0 (636) (in), Y11 GCK1 (635) (in)
part J pins: A21 TDO (out), AB2 M0 (507) (in), B20 TDI (in), B22 CCLK (1019) (io), C4 TCK (in), D3 TMS (in), U5 M1 (506) (in), W20 PROGRAM (766) (in), Y4 M2 (508) (in), Y19 DONE (763) (io)
part K pins: E5 VCCINT (power), E18 VCCINT (power), F6 VCCINT (power), F7 VCCO Bank 0 (power), F8 VCCO Bank 0 (power), F9 VCCO Bank 0 (power), F10 VCCO Bank 0 (power), F13 VCCO Bank 1 (power), F14 VCCO Bank 1 (power), F15 VCCO Bank 1 (power), F16 VCCO Bank 1 (power), F17 VCCINT (power), G6 VCCO Bank 7 (power), G7 VCCINT (power), G8 VCCINT (power), G9 VCCINT (power), G10 VCCO Bank 0 (power), G11 VCCO Bank 0 (power), G12 VCCO Bank 1 (power), G13 VCCO Bank 1 (power), G14 VCCINT (power), G15 VCCINT (power), G16 VCCINT (power), G17 VCCO Bank 2 (power), H6 VCCO Bank 7 (power), H7 VCCINT (power), H16 VCCINT (power), H17 VCCO Bank 2 (power), J6 VCCO Bank 7 (power), J7 VCCINT (power), J16 VCCINT (power), J17 VCCO Bank 2 (power), K6 VCCO Bank 7 (power), K7 VCCO Bank 7 (power), K16 VCCO Bank 2 (power), K17 VCCO Bank 2 (power), L7 VCCO Bank 7 (power), L16 VCCO Bank 2 (power), M7 VCCO Bank 6 (power), M16 VCCO Bank 3 (power), N6 VCCO Bank 6 (power), N7 VCCO Bank 6 (power), N16 VCCO Bank 3 (power), N17 VCCO Bank 3 (power), P6 VCCO Bank 6 (power), P7 VCCINT (power), P16 VCCINT (power), P17 VCCO Bank 3 (power), R6 VCCO Bank 6 (power), R7 VCCINT (power), R16 VCCINT (power), R17 VCCO Bank 3 (power), T6 VCCO Bank 6 (power), T7 VCCINT (power), T8 VCCINT (power), T9 VCCINT (power), T10 VCCO Bank 5 (power), T11 VCCO Bank 5 (power), T12 VCCO Bank 4 (power), T13 VCCO Bank 4 (power), T14 VCCINT (power), T15 VCCINT (power), T16 VCCINT (power), T17 VCCO Bank 3 (power), U6 VCCINT (power), U7 VCCO Bank 5 (power), U8 VCCO Bank 5 (power), U9 VCCO Bank 5 (power), U10 VCCO Bank 5 (power), U13 VCCO Bank 4 (power), U14 VCCO Bank 4 (power), U15 VCCO Bank 4 (power), U16 VCCO Bank 4 (power), U17 VCCINT (power), V5 VCCINT (power), V18 VCCINT (power)
part L pins: A1 GND (power), A22 GND (power), AA2 GND (power), AA21 GND (power), AB1 GND (power), AB22 GND (power), B2 GND (power), B21 GND (power), C3 GND (power), C20 GND (power), J9 GND (power), J10 GND (power), J11 GND (power), J12 GND (power), J13 GND (power), J14 GND (power), K9 GND (power), K10 GND (power), K11 GND (power), K12 GND (power), K13 GND (power), K14 GND (power), L9 GND (power), L10 GND (power), L11 GND (power), L12 GND (power), L13 GND (power), L14 GND (power), M9 GND (power), M10 GND (power), M11 GND (power), M12 GND (power), M13 GND (power), M14 GND (power), N9 GND (power), N10 GND (power), N11 GND (power), N12 GND (power), N13 GND (power), N14 GND (power), P9 GND (power), P10 GND (power), P11 GND (power), P12 GND (power), P13 GND (power), P14 GND (power), Y3 GND (power), Y20 GND (power)
part M pins: A2 NC, A6 NC, A12 NC, AA1 NC, AA3 NC, AA11 NC, AA16 NC, AB7 NC, AB12 NC, AB21 NC, B11 NC, B16 NC, C2 NC, D1 NC, D4 NC, D18 NC, D19 NC, E17 NC, E19 NC, G2 NC, G22 NC, L2 NC, L19 NC, M2 NC, M21 NC, R3 NC, R20 NC, U3 NC, U18 NC, V6 NC, W4 NC, W19 NC, Y5 NC, Y22 NC
part A text: BANK 0
part B text: BANK 1
part C text: BANK 2
part D text: BANK 3
part E text: BANK 4
part F text: BANK 5
part G text: BANK 6
part H text: BANK 7

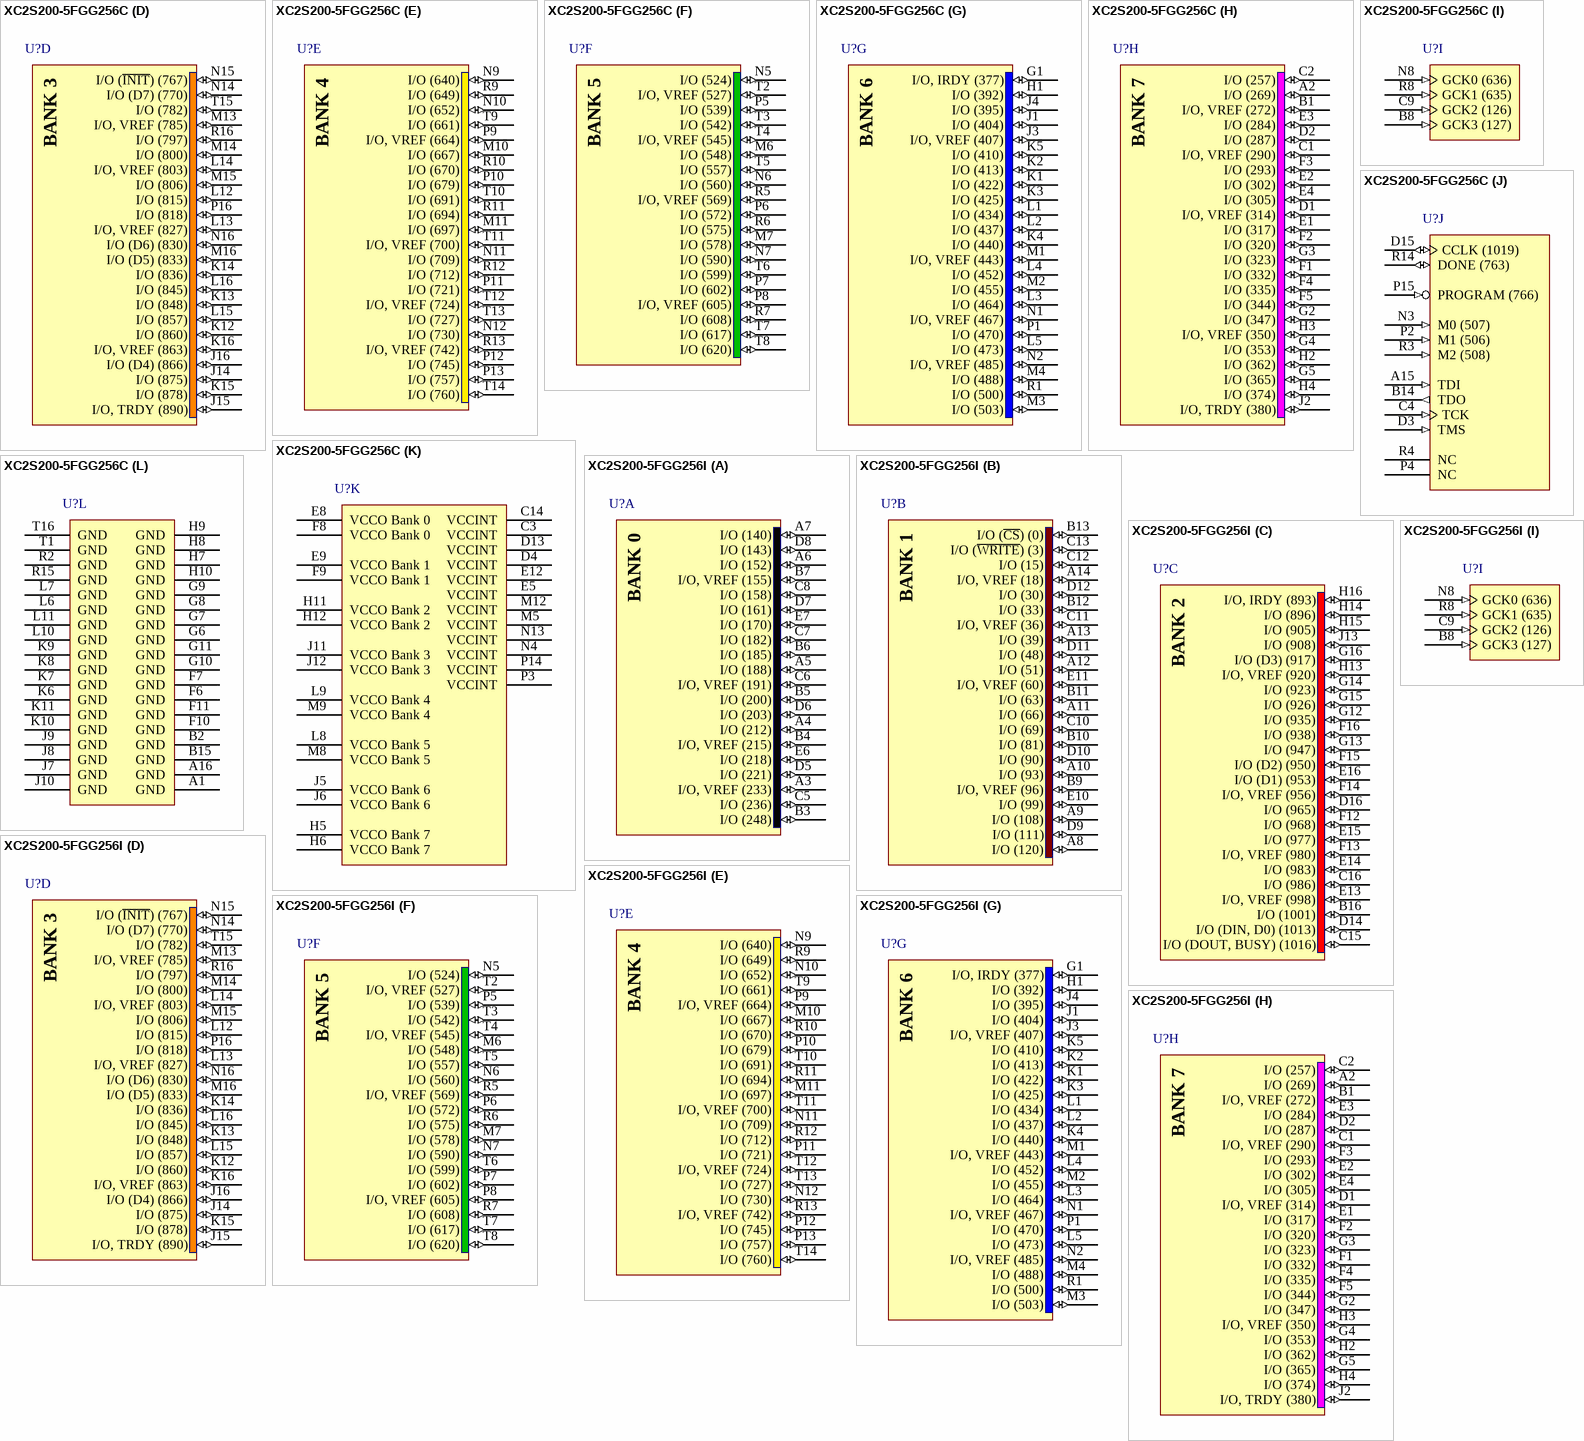
[diagram p61: symbols XC2S200-5FGG256C to XC2S200-5FGG256I]

## XC2S200-5FGG256C
designator U?
Spartan-II 2.5V FPGA, 256-Ball FBGA, Standard Performance, Commercial Grade, Pb-Free; Published: 2-Mar-2006; DatasheetVersion: Aug-2004; PackageVersion: ver1.2.1, Apr-2005; PackageReference: FGG256; Publisher: Altium Limited; PackageDescription: 256-Ball Fine Pitch Ball Grid Array (FGG256) - Pb-Free; Code_JEDEC: MO-151-AAF-1; Code_IPC: BGA100P16X16-256; ComponentLink1Description: Manufacturer Link; ComponentLink1URL: http://www.xilinx.com/products/silicon_solutions/fpgas/spartan_series/spartan2_fpgas/index.htm; ComponentLink2Description: Datasheet; ComponentLink2URL: http://direct.xilinx.com/bvdocs/publications/ds001.pdf
footprint FGG256 (BGA, 256-Leads, Body 17x17mm, Pitch 1mm)
3D model XC2S200-FG256 (256-Ball Fine Pitch Ball Grid Array (FGG256) - Pb-Free)
signal-integrity model XC2S200_FGG256 (Spartan-II)
part A pins: A3 I/O, VREF (233) (io), A4 I/O (212) (io), A5 I/O (188) (io), A6 I/O (152) (io), A7 I/O (140) (io), B3 I/O (248) (io), B4 I/O, VREF (215) (io), B5 I/O (200) (io), B6 I/O (185) (io), B7 I/O, VREF (155) (io), C5 I/O (236) (io), C6 I/O, VREF (191) (io), C7 I/O (182) (io), C8 I/O (158) (io), D5 I/O (221) (io), D6 I/O (203) (io), D7 I/O (161) (io), D8 I/O (143) (io), E6 I/O (218) (io), E7 I/O (170) (io)
part B pins: A8 I/O (120) (io), A9 I/O (108) (io), A10 I/O (93) (io), A11 I/O (66) (io), A12 I/O (51) (io), A13 I/O (39) (io), A14 I/O, VREF (18) (io), B9 I/O, VREF (96) (io), B10 I/O (81) (io), B11 I/O (63) (io), B12 I/O (33) (io), B13 I/O (~{CS}) (0) (io), C10 I/O (69) (io), C11 I/O, VREF (36) (io), C12 I/O (15) (io), C13 I/O (~{WRITE}) (3) (io), D9 I/O (111) (io), D10 I/O (90) (io), D11 I/O (48) (io), D12 I/O (30) (io), E10 I/O (99) (io), E11 I/O, VREF (60) (io)
part C pins: B16 I/O (1001) (io), C15 I/O (DOUT, BUSY) (1016) (io), C16 I/O (986) (io), D14 I/O (DIN, D0) (1013) (io), D16 I/O (965) (io), E13 I/O, VREF (998) (io), E14 I/O (983) (io), E15 I/O (977) (io), E16 I/O (D1) (953) (io), F12 I/O (968) (io), F13 I/O, VREF (980) (io), F14 I/O, VREF (956) (io), F15 I/O (D2) (950) (io), F16 I/O (938) (io), G12 I/O (935) (io), G13 I/O (947) (io), G14 I/O (923) (io), G15 I/O (926) (io), G16 I/O (D3) (917) (io), H13 I/O, VREF (920) (io), H14 I/O (896) (io), H15 I/O (905) (io), H16 I/O, IRDY (893) (io), J13 I/O (908) (io)
part D pins: J14 I/O (875) (io), J15 I/O, TRDY (890) (io), J16 I/O (D4) (866) (io), K12 I/O (860) (io), K13 I/O (848) (io), K14 I/O (836) (io), K15 I/O (878) (io), K16 I/O, VREF (863) (io), L12 I/O (815) (io), L13 I/O, VREF (827) (io), L14 I/O, VREF (803) (io), L15 I/O (857) (io), L16 I/O (845) (io), M13 I/O, VREF (785) (io), M14 I/O (800) (io), M15 I/O (806) (io), M16 I/O (D5) (833) (io), N14 I/O (D7) (770) (io), N15 I/O (~{INIT}) (767) (io), N16 I/O (D6) (830) (io), P16 I/O (818) (io), R16 I/O (797) (io), T15 I/O (782) (io)
part E pins: M10 I/O (667) (io), M11 I/O (697) (io), N9 I/O (640) (io), N10 I/O (652) (io), N11 I/O (709) (io), N12 I/O (730) (io), P9 I/O, VREF (664) (io), P10 I/O (679) (io), P11 I/O (721) (io), P12 I/O (745) (io), P13 I/O (757) (io), R9 I/O (649) (io), R10 I/O (670) (io), R11 I/O (694) (io), R12 I/O (712) (io), R13 I/O, VREF (742) (io), T9 I/O (661) (io), T10 I/O (691) (io), T11 I/O, VREF (700) (io), T12 I/O, VREF (724) (io), T13 I/O (727) (io), T14 I/O (760) (io)
part F pins: M6 I/O (548) (io), M7 I/O (578) (io), N5 I/O (524) (io), N6 I/O (560) (io), N7 I/O (590) (io), P5 I/O (539) (io), P6 I/O (572) (io), P7 I/O (602) (io), P8 I/O, VREF (605) (io), R5 I/O, VREF (569) (io), R6 I/O (575) (io), R7 I/O (608) (io), T2 I/O, VREF (527) (io), T3 I/O (542) (io), T4 I/O, VREF (545) (io), T5 I/O (557) (io), T6 I/O (599) (io), T7 I/O (617) (io), T8 I/O (620) (io)
part G pins: G1 I/O, IRDY (377) (io), H1 I/O (392) (io), J1 I/O (404) (io), J3 I/O, VREF (407) (io), J4 I/O (395) (io), K1 I/O (422) (io), K2 I/O (413) (io), K3 I/O (425) (io), K4 I/O (440) (io), K5 I/O (410) (io), L1 I/O (434) (io), L2 I/O (437) (io), L3 I/O (464) (io), L4 I/O (452) (io), L5 I/O (473) (io), M1 I/O, VREF (443) (io), M2 I/O (455) (io), M3 I/O (503) (io), M4 I/O (488) (io), N1 I/O, VREF (467) (io), N2 I/O, VREF (485) (io), P1 I/O (470) (io), R1 I/O (500) (io)
part H pins: A2 I/O (269) (io), B1 I/O, VREF (272) (io), C1 I/O, VREF (290) (io), C2 I/O (257) (io), D1 I/O, VREF (314) (io), D2 I/O (287) (io), E1 I/O (317) (io), E2 I/O (302) (io), E3 I/O (284) (io), E4 I/O (305) (io), F1 I/O (332) (io), F2 I/O (320) (io), F3 I/O (293) (io), F4 I/O (335) (io), F5 I/O (344) (io), G2 I/O (347) (io), G3 I/O (323) (io), G4 I/O (353) (io), G5 I/O (365) (io), H2 I/O (362) (io), H3 I/O, VREF (350) (io), H4 I/O (374) (io), J2 I/O, TRDY (380) (io)
part I pins: B8 GCK3 (127) (in), C9 GCK2 (126) (in), N8 GCK0 (636) (in), R8 GCK1 (635) (in)
part J pins: A15 TDI (in), B14 TDO (out), C4 TCK (in), D3 TMS (in), D15 CCLK (1019) (io), N3 M0 (507) (in), P2 M1 (506) (in), P4 NC, P15 PROGRAM (766) (in), R3 M2 (508) (in), R4 NC, R14 DONE (763) (io)
part K pins: C3 VCCINT (power), C14 VCCINT (power), D4 VCCINT (power), D13 VCCINT (power), E5 VCCINT (power), E8 VCCO Bank 0 (power), E9 VCCO Bank 1 (power), E12 VCCINT (power), F8 VCCO Bank 0 (power), F9 VCCO Bank 1 (power), H5 VCCO Bank 7 (power), H6 VCCO Bank 7 (power), H11 VCCO Bank 2 (power), H12 VCCO Bank 2 (power), J5 VCCO Bank 6 (power), J6 VCCO Bank 6 (power), J11 VCCO Bank 3 (power), J12 VCCO Bank 3 (power), L8 VCCO Bank 5 (power), L9 VCCO Bank 4 (power), M5 VCCINT (power), M8 VCCO Bank 5 (power), M9 VCCO Bank 4 (power), M12 VCCINT (power), N4 VCCINT (power), N13 VCCINT (power), P3 VCCINT (power), P14 VCCINT (power)
part L pins: A1 GND (power), A16 GND (power), B2 GND (power), B15 GND (power), F6 GND (power), F7 GND (power), F10 GND (power), F11 GND (power), G6 GND (power), G7 GND (power), G8 GND (power), G9 GND (power), G10 GND (power), G11 GND (power), H7 GND (power), H8 GND (power), H9 GND (power), H10 GND (power), J7 GND (power), J8 GND (power), J9 GND (power), J10 GND (power), K6 GND (power), K7 GND (power), K8 GND (power), K9 GND (power), K10 GND (power), K11 GND (power), L6 GND (power), L7 GND (power), L10 GND (power), L11 GND (power), R2 GND (power), R15 GND (power), T1 GND (power), T16 GND (power)
part A text: BANK 0
part B text: BANK 1
part C text: BANK 2
part D text: BANK 3
part E text: BANK 4
part F text: BANK 5
part G text: BANK 6
part H text: BANK 7

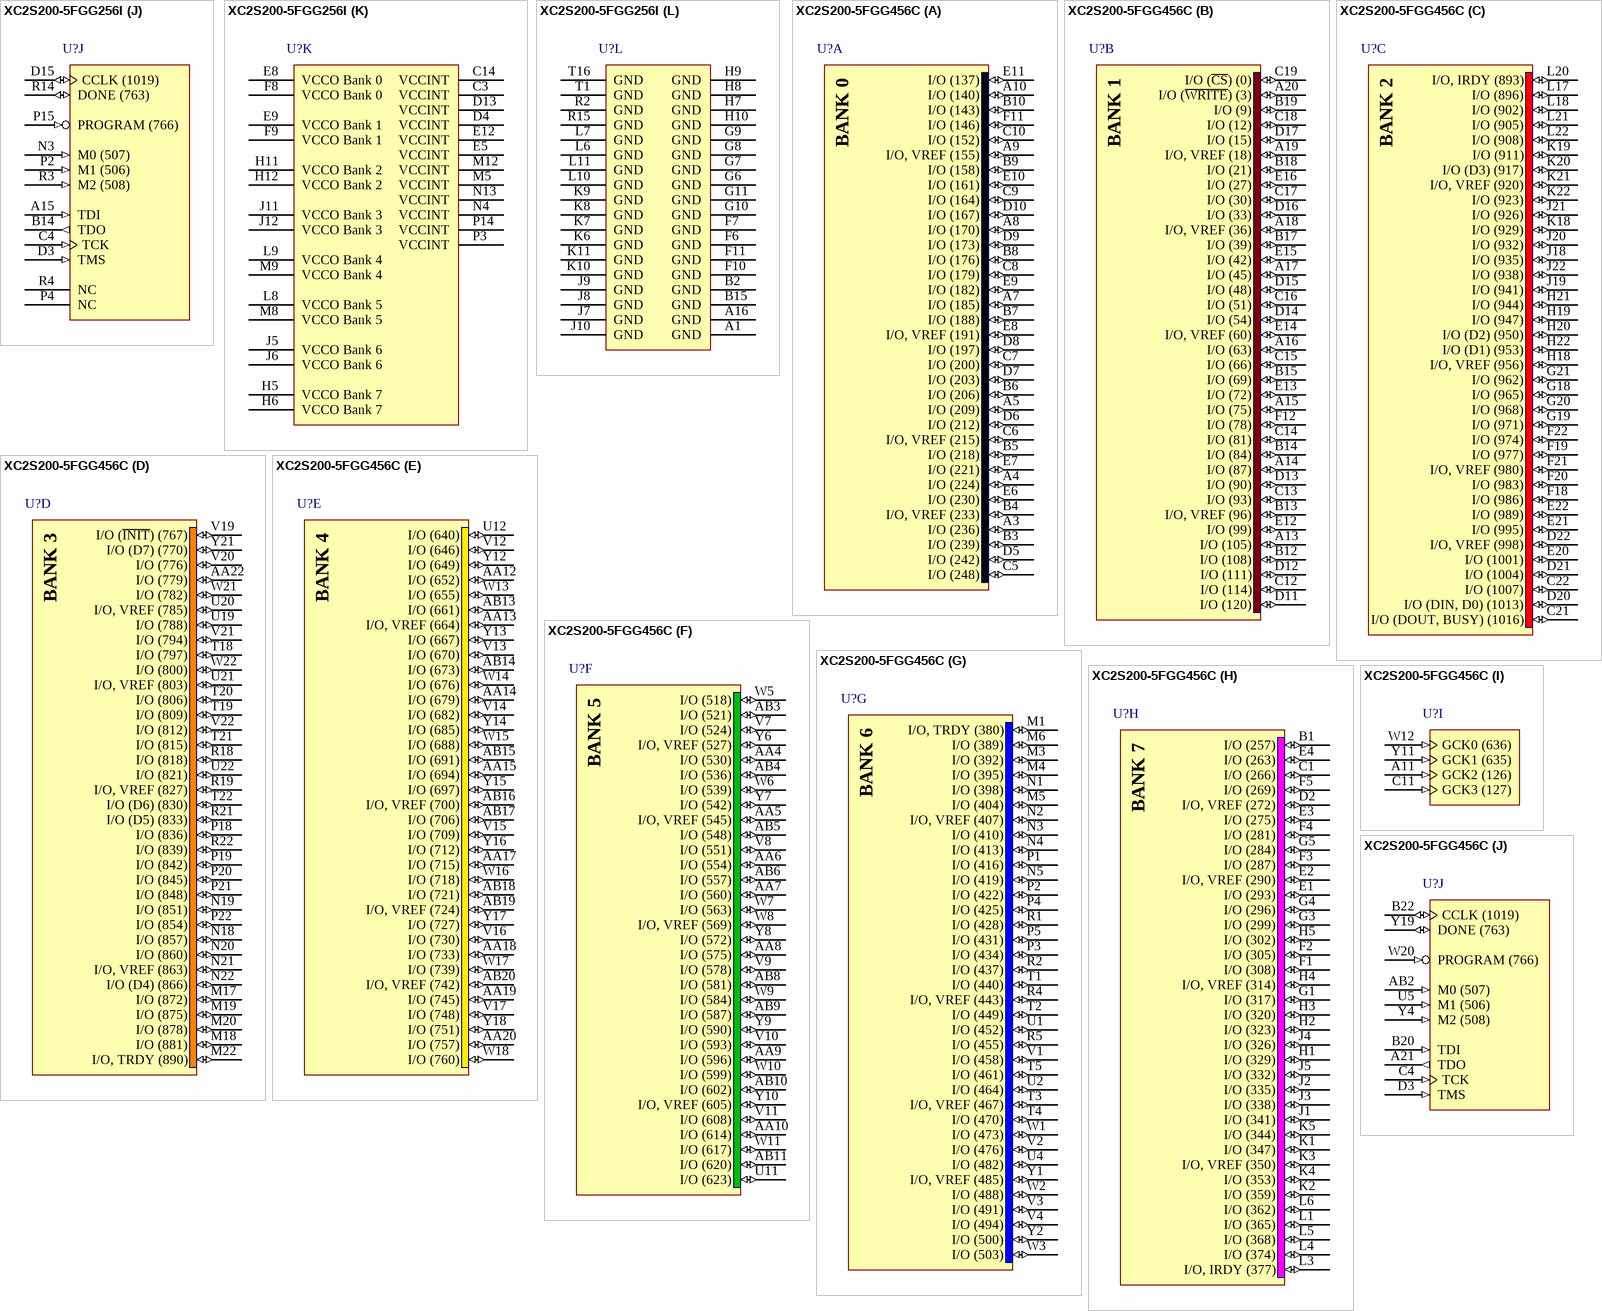
[diagram p62: symbols XC2S200-5FGG256I to XC2S200-5FGG456C]

## XC2S200-5FGG256I
designator U?
Spartan-II 2.5V FPGA, 256-Ball FBGA, Standard Performance, Industrial Grade, Pb-Free; Published: 2-Mar-2006; DatasheetVersion: Aug-2004; PackageVersion: ver1.2.1, Apr-2005; PackageReference: FGG256; Publisher: Altium Limited; PackageDescription: 256-Ball Fine Pitch Ball Grid Array (FGG256) - Pb-Free; Code_JEDEC: MO-151-AAF-1; Code_IPC: BGA100P16X16-256; ComponentLink1Description: Manufacturer Link; ComponentLink1URL: http://www.xilinx.com/products/silicon_solutions/fpgas/spartan_series/spartan2_fpgas/index.htm; ComponentLink2Description: Datasheet; ComponentLink2URL: http://direct.xilinx.com/bvdocs/publications/ds001.pdf
footprint FGG256 (BGA, 256-Leads, Body 17x17mm, Pitch 1mm)
3D model XC2S200-FG256 (256-Ball Fine Pitch Ball Grid Array (FGG256) - Pb-Free)
signal-integrity model XC2S200_FGG256 (Spartan-II)
part A pins: A3 I/O, VREF (233) (io), A4 I/O (212) (io), A5 I/O (188) (io), A6 I/O (152) (io), A7 I/O (140) (io), B3 I/O (248) (io), B4 I/O, VREF (215) (io), B5 I/O (200) (io), B6 I/O (185) (io), B7 I/O, VREF (155) (io), C5 I/O (236) (io), C6 I/O, VREF (191) (io), C7 I/O (182) (io), C8 I/O (158) (io), D5 I/O (221) (io), D6 I/O (203) (io), D7 I/O (161) (io), D8 I/O (143) (io), E6 I/O (218) (io), E7 I/O (170) (io)
part B pins: A8 I/O (120) (io), A9 I/O (108) (io), A10 I/O (93) (io), A11 I/O (66) (io), A12 I/O (51) (io), A13 I/O (39) (io), A14 I/O, VREF (18) (io), B9 I/O, VREF (96) (io), B10 I/O (81) (io), B11 I/O (63) (io), B12 I/O (33) (io), B13 I/O (~{CS}) (0) (io), C10 I/O (69) (io), C11 I/O, VREF (36) (io), C12 I/O (15) (io), C13 I/O (~{WRITE}) (3) (io), D9 I/O (111) (io), D10 I/O (90) (io), D11 I/O (48) (io), D12 I/O (30) (io), E10 I/O (99) (io), E11 I/O, VREF (60) (io)
part C pins: B16 I/O (1001) (io), C15 I/O (DOUT, BUSY) (1016) (io), C16 I/O (986) (io), D14 I/O (DIN, D0) (1013) (io), D16 I/O (965) (io), E13 I/O, VREF (998) (io), E14 I/O (983) (io), E15 I/O (977) (io), E16 I/O (D1) (953) (io), F12 I/O (968) (io), F13 I/O, VREF (980) (io), F14 I/O, VREF (956) (io), F15 I/O (D2) (950) (io), F16 I/O (938) (io), G12 I/O (935) (io), G13 I/O (947) (io), G14 I/O (923) (io), G15 I/O (926) (io), G16 I/O (D3) (917) (io), H13 I/O, VREF (920) (io), H14 I/O (896) (io), H15 I/O (905) (io), H16 I/O, IRDY (893) (io), J13 I/O (908) (io)
part D pins: J14 I/O (875) (io), J15 I/O, TRDY (890) (io), J16 I/O (D4) (866) (io), K12 I/O (860) (io), K13 I/O (848) (io), K14 I/O (836) (io), K15 I/O (878) (io), K16 I/O, VREF (863) (io), L12 I/O (815) (io), L13 I/O, VREF (827) (io), L14 I/O, VREF (803) (io), L15 I/O (857) (io), L16 I/O (845) (io), M13 I/O, VREF (785) (io), M14 I/O (800) (io), M15 I/O (806) (io), M16 I/O (D5) (833) (io), N14 I/O (D7) (770) (io), N15 I/O (~{INIT}) (767) (io), N16 I/O (D6) (830) (io), P16 I/O (818) (io), R16 I/O (797) (io), T15 I/O (782) (io)
part E pins: M10 I/O (667) (io), M11 I/O (697) (io), N9 I/O (640) (io), N10 I/O (652) (io), N11 I/O (709) (io), N12 I/O (730) (io), P9 I/O, VREF (664) (io), P10 I/O (679) (io), P11 I/O (721) (io), P12 I/O (745) (io), P13 I/O (757) (io), R9 I/O (649) (io), R10 I/O (670) (io), R11 I/O (694) (io), R12 I/O (712) (io), R13 I/O, VREF (742) (io), T9 I/O (661) (io), T10 I/O (691) (io), T11 I/O, VREF (700) (io), T12 I/O, VREF (724) (io), T13 I/O (727) (io), T14 I/O (760) (io)
part F pins: M6 I/O (548) (io), M7 I/O (578) (io), N5 I/O (524) (io), N6 I/O (560) (io), N7 I/O (590) (io), P5 I/O (539) (io), P6 I/O (572) (io), P7 I/O (602) (io), P8 I/O, VREF (605) (io), R5 I/O, VREF (569) (io), R6 I/O (575) (io), R7 I/O (608) (io), T2 I/O, VREF (527) (io), T3 I/O (542) (io), T4 I/O, VREF (545) (io), T5 I/O (557) (io), T6 I/O (599) (io), T7 I/O (617) (io), T8 I/O (620) (io)
part G pins: G1 I/O, IRDY (377) (io), H1 I/O (392) (io), J1 I/O (404) (io), J3 I/O, VREF (407) (io), J4 I/O (395) (io), K1 I/O (422) (io), K2 I/O (413) (io), K3 I/O (425) (io), K4 I/O (440) (io), K5 I/O (410) (io), L1 I/O (434) (io), L2 I/O (437) (io), L3 I/O (464) (io), L4 I/O (452) (io), L5 I/O (473) (io), M1 I/O, VREF (443) (io), M2 I/O (455) (io), M3 I/O (503) (io), M4 I/O (488) (io), N1 I/O, VREF (467) (io), N2 I/O, VREF (485) (io), P1 I/O (470) (io), R1 I/O (500) (io)
part H pins: A2 I/O (269) (io), B1 I/O, VREF (272) (io), C1 I/O, VREF (290) (io), C2 I/O (257) (io), D1 I/O, VREF (314) (io), D2 I/O (287) (io), E1 I/O (317) (io), E2 I/O (302) (io), E3 I/O (284) (io), E4 I/O (305) (io), F1 I/O (332) (io), F2 I/O (320) (io), F3 I/O (293) (io), F4 I/O (335) (io), F5 I/O (344) (io), G2 I/O (347) (io), G3 I/O (323) (io), G4 I/O (353) (io), G5 I/O (365) (io), H2 I/O (362) (io), H3 I/O, VREF (350) (io), H4 I/O (374) (io), J2 I/O, TRDY (380) (io)
part I pins: B8 GCK3 (127) (in), C9 GCK2 (126) (in), N8 GCK0 (636) (in), R8 GCK1 (635) (in)
part J pins: A15 TDI (in), B14 TDO (out), C4 TCK (in), D3 TMS (in), D15 CCLK (1019) (io), N3 M0 (507) (in), P2 M1 (506) (in), P4 NC, P15 PROGRAM (766) (in), R3 M2 (508) (in), R4 NC, R14 DONE (763) (io)
part K pins: C3 VCCINT (power), C14 VCCINT (power), D4 VCCINT (power), D13 VCCINT (power), E5 VCCINT (power), E8 VCCO Bank 0 (power), E9 VCCO Bank 1 (power), E12 VCCINT (power), F8 VCCO Bank 0 (power), F9 VCCO Bank 1 (power), H5 VCCO Bank 7 (power), H6 VCCO Bank 7 (power), H11 VCCO Bank 2 (power), H12 VCCO Bank 2 (power), J5 VCCO Bank 6 (power), J6 VCCO Bank 6 (power), J11 VCCO Bank 3 (power), J12 VCCO Bank 3 (power), L8 VCCO Bank 5 (power), L9 VCCO Bank 4 (power), M5 VCCINT (power), M8 VCCO Bank 5 (power), M9 VCCO Bank 4 (power), M12 VCCINT (power), N4 VCCINT (power), N13 VCCINT (power), P3 VCCINT (power), P14 VCCINT (power)
part L pins: A1 GND (power), A16 GND (power), B2 GND (power), B15 GND (power), F6 GND (power), F7 GND (power), F10 GND (power), F11 GND (power), G6 GND (power), G7 GND (power), G8 GND (power), G9 GND (power), G10 GND (power), G11 GND (power), H7 GND (power), H8 GND (power), H9 GND (power), H10 GND (power), J7 GND (power), J8 GND (power), J9 GND (power), J10 GND (power), K6 GND (power), K7 GND (power), K8 GND (power), K9 GND (power), K10 GND (power), K11 GND (power), L6 GND (power), L7 GND (power), L10 GND (power), L11 GND (power), R2 GND (power), R15 GND (power), T1 GND (power), T16 GND (power)
part A text: BANK 0
part B text: BANK 1
part C text: BANK 2
part D text: BANK 3
part E text: BANK 4
part F text: BANK 5
part G text: BANK 6
part H text: BANK 7

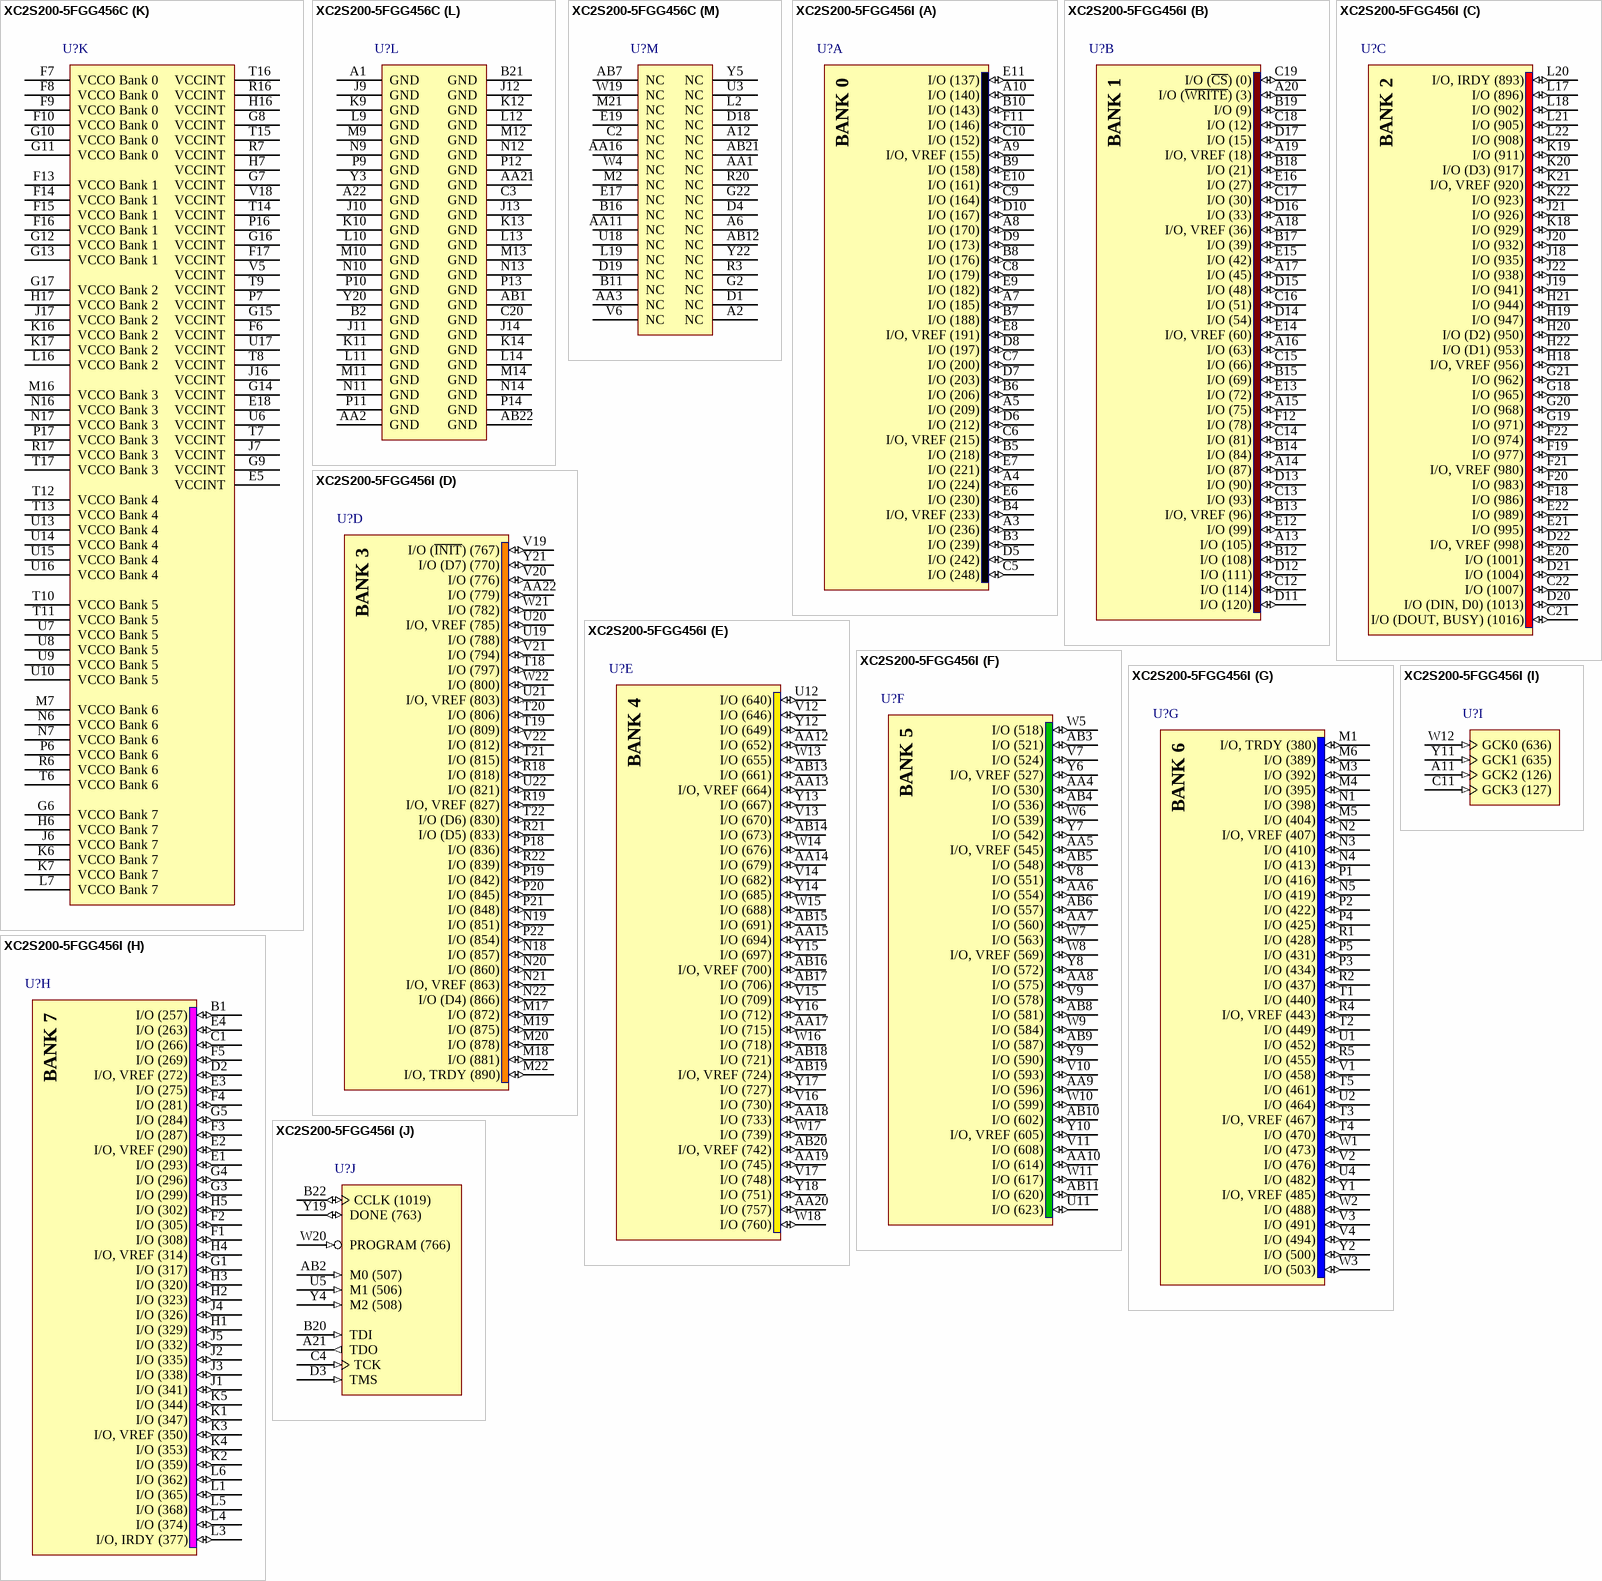
[diagram p63: symbols XC2S200-5FGG456C to XC2S200-5FGG456I]